# Altium schematic symbol library MCUs.SchLib: 48 symbols (part 2 of 3)
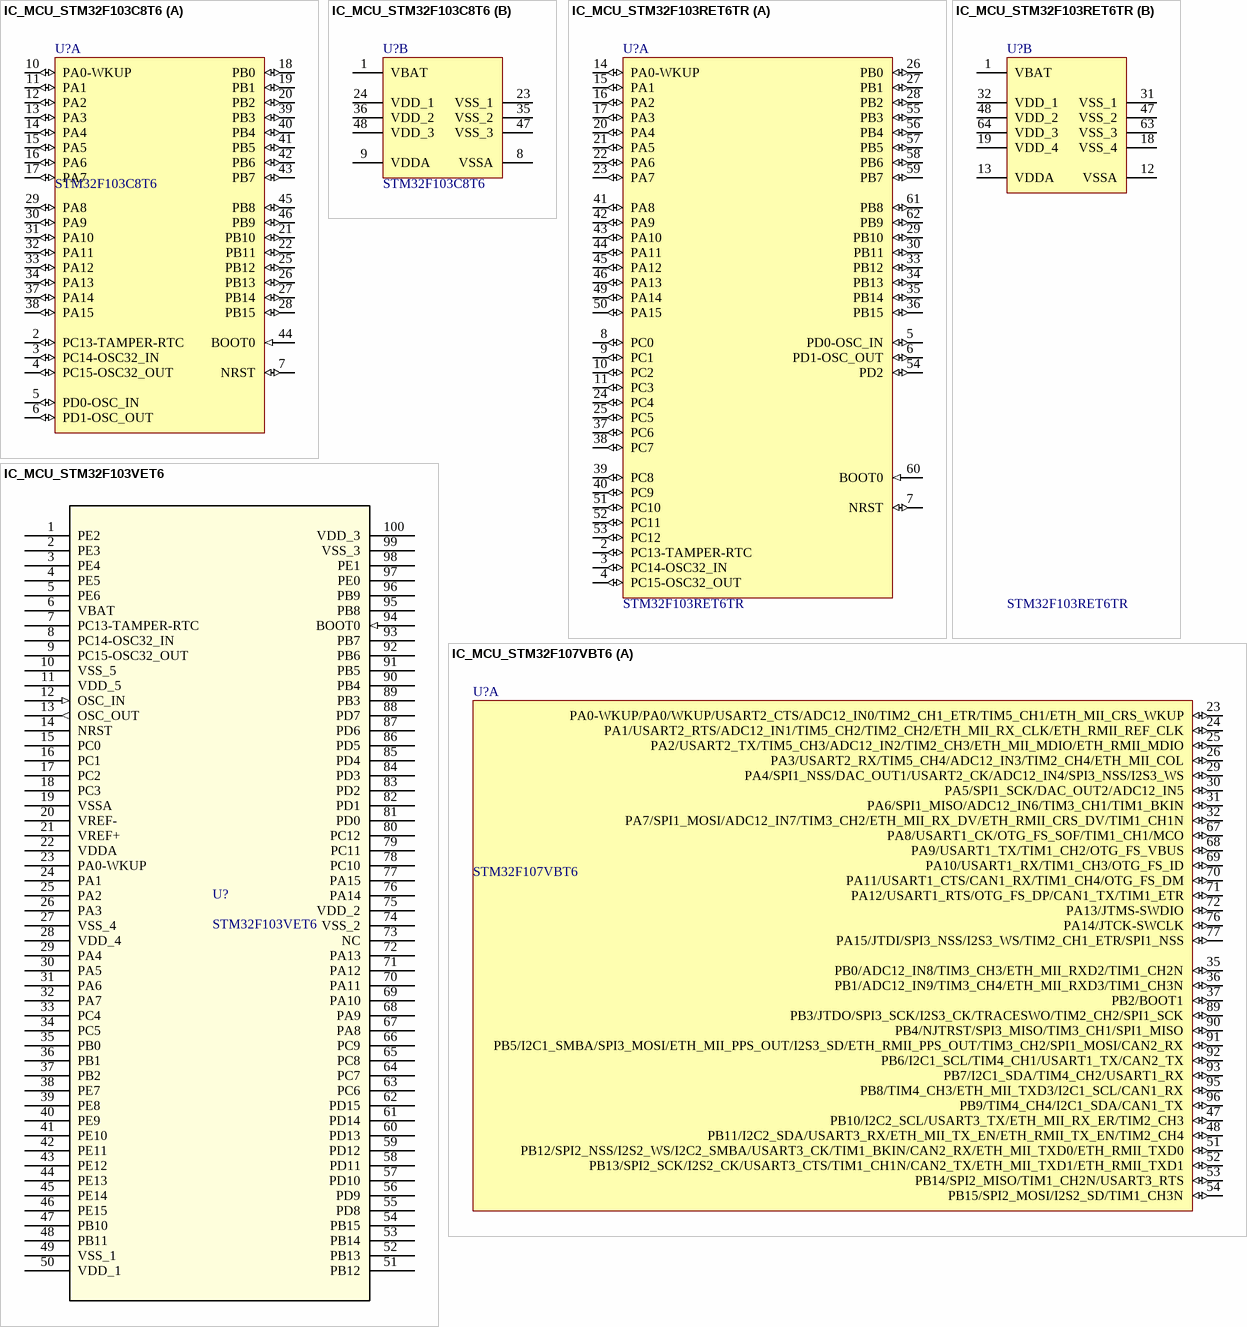
[diagram p12: symbols IC_MCU_STM32F103C8T6 to IC_MCU_STM32F107VBT6]

## IC_MCU_STM32F103RET6TR
designator U?, comment STM32F103RET6TR
IC MCU 32BIT 512KB FLASH 64LQFP; Manufacturer: STMicroelectronics; Manufacturer Part Number: STM32F103RET6TR; Supplier 1: Digi-Key; Supplier Part Number 1: 497-17387-1-ND; Reel Stock: N/A; Last modified by: J.Jaramillo; Last modified date: 20240310; ComponentLink1Description: Datasheet; ComponentLink1URL: http://www.st.com/content/ccc/resource/technical/document/datasheet/a4/5d/0b/0e/87/c4/4d/71/DM00088500.pdf/files/DM00088500.pdf/jcr:content/translations/en.DM00088500.pdf; ComponentLink2Description: Digi-Key; ComponentLink2URL: https://www.digikey.com/en/products/detail/stmicroelectronics/STM32F103RET6TR/2035377?s=N4IgTCBcDaICwE4DsBaAjEgzADlWlAcgCIgC6AvkA
footprint LQFP_64_10x10mm (64-LQFP / 20190221 / H-D.Garcia)
part A pins: 2 PC13-TAMPER-RTC (io) "PC13-TAMPER-RTC/PC13/TAMPER-RTC", 3 PC14-OSC32_IN (io) "PC14-OSC32_IN/PC14/OSC32_IN", 4 PC15-OSC32_OUT (io) "PC15-OSC32_OUT/PC15/OSC32_OUT", 5 PD0-OSC_IN (io) "PD0/OSC_IN/CAN_RX", 6 PD1-OSC_OUT (io) "PD1/OSC_OUT/CAN_TX", 7 NRST (io), 8 PC0 (io) "PC0/ADC123_IN10", 9 PC1 (io) "PC1/ADC123_IN11", 10 PC2 (io) "PC2/ADC123_IN12", 11 PC3 (io) "PC3/ADC123_IN13", 14 PA0-WKUP (io) "PA0-WKUP/PA0/WKUP/USART2_CTS/ADC123_IN0/TIM2_CH1_ETR/TIM5_CH1/TIM8_ETR", 15 PA1 (io) "PA1/USART2_RTS/ADC123_IN1/TIM5_CH2/TIM2_CH2", 16 PA2 (io) "PA2/USART2_TX/TIM5_CH3/ADC123_IN2/TIM2_CH3", 17 PA3 (io) "PA3/USART2_RX/TIM5_CH4/ADC123_IN3/TIM2_CH4", 20 PA4 (io) "PA4/SPI1_NSS/USART2_CK/DAC_OUT1/ADC12_IN4", 21 PA5 (io) "PA5/SPI1_SCK/DAC_OUT2/ADC12_IN5", 22 PA6 (io) "PA6/SPI1_MISO/TIM8_BKIN/ADC12_IN6/TIM3_CH1/TIM1_BKIN", 23 PA7 (io) "PA7/SPI1_MOSI/TIM8_CH1N/ADC12_IN7/TIM3_CH2/TIM1_CH1N", 24 PC4 (io) "PC4/ADC12_IN14", 25 PC5 (io) "PC5/ADC12_IN15", 26 PB0 (io) "PB0/ADC12_IN8/TIM3_CH3/TIM8_CH2N/TIM1_CH2N", 27 PB1 (io) "PB1/ADC12_IN9/TIM3_CH4/TIM8_CH3N/TIM1_CH3N", 28 PB2 (io) "PB2/BOOT1", 29 PB10 (io) "PB10/I2C2_SCL/USART3_TX/TIM2_CH3", 30 PB11 (io) "PB11/I2C2_SDA/USART3_RX/TIM2_CH4", 33 PB12 (io) "PB12/SPI2_NSS/I2S2_WS/I2C2_SMBA/USART3_CK/TIM1_BKIN", 34 PB13 (io) "PB13/SPI2_SCK/I2S2_CK/USART3_CTS/TIM1_CH1N", 35 PB14 (io) "PB14/SPI2_MISO/TIM1_CH2N/USART3_RTS", 36 PB15 (io) "PB15/SPI2_MOSI/I2S2_SD/TIM1_CH3N", 37 PC6 (io) "PC6/I2S2_MCK/TIM8_CH1/SDIO_D6/TIM3_CH1", 38 PC7 (io) "PC7/I2S3_MCK/TIM8_CH2/SDIO_D7/TIM3_CH2", 39 PC8 (io) "PC8/TIM8_CH3/SDIO_D0/TIM3_CH3", 40 PC9 (io) "PC9/TIM8_CH4/SDIO_D1/TIM3_CH4", 41 PA8 (io) "PA8/USART1_CK/TIM1_CH1/MCO", 42 PA9 (io) "PA9/USART1_TX/TIM1_CH2", 43 PA10 (io) "PA10/USART1_RX/TIM1_CH3", 44 PA11 (io) "PA11/USART1_CTS/USBDM/CAN_RX/TIM1_CH4", 45 PA12 (io) "PA12/USART1_RTS/USBDP/CAN_TX/TIM1_ETR", 46 PA13 (io) "PA13/JTMS-SWDIO", 49 PA14 (io) "PA14/JTCK-SWCLK", 50 PA15 (io) "PA15/JTDI/SPI3_NSS/I2S3_WS/TIM2_CH1_ETR/SPI1_NSS", 51 PC10 (io) "PC10/UART4_TX/SDIO_D2/USART3_TX", 52 PC11 (io) "PC11/UART4_RX/SDIO_D3/USART3_RX", 53 PC12 (io) "PC12/UART5_TX/SDIO_CK/USART3_CK", 54 PD2 (io) "PD2/TIM3_ETR/UART5_RX/SDIO_CMD", 55 PB3 (io) "PB3/JTDO/SPI3_SCK/I2S3_CK/TRACESWO/TIM2_CH2/SPI1_SCK", 56 PB4 (io) "PB4/NJTRST/SPI3_MISO/TIM3_CH1/SPI1_MISO", 57 PB5 (io) "PB5/I2C1_SMBA/SPI3_MOSI/I2S3_SD/TIM3_CH2/SPI1_MOSI", 58 PB6 (io) "PB6/I2C1_SCL/TIM4_CH1/USART1_TX", 59 PB7 (io) "PB7/I2C1_SDA/TIM4_CH2/USART1_RX", 60 BOOT0 (in), 61 PB8 (io) "PB8/TIM4_CH3/SDIO_D4/I2C1_SCL/CAN_RX", 62 PB9 (io) "PB9/TIM4_CH4/SDIO_D5/I2C1_SDA/CAN_TX"
part B pins: 1 VBAT (power), 12 VSSA (power), 13 VDDA (power), 18 VSS_4 (power), 19 VDD_4 (power), 31 VSS_1 (power), 32 VDD_1 (power), 47 VSS_2 (power), 48 VDD_2 (power), 63 VSS_3 (power), 64 VDD_3 (power)

## IC_MCU_STM32F103VET6
designator U?, comment STM32F103VET6
IC MCU 32BIT 512KB FLASH 100LQFP; Manufacturer: STMicroelectronics; Manufacturer Part Number: STM32F103VET6; Supplier 1: Digi-Key; Supplier Part Number 1: 497-6443-ND; Reel Stock: N/A; Last modified by: J.Jaramillo; Last modified date: 20240310; ComponentLink1Description: Digi-Key; ComponentLink1URL: https://www.digikey.com/en/products/detail/stmicroelectronics/STM32F103VET6/1852093
footprint LQFP_100_16x16MM (/20230120/J-A.Sepulveda)
pins: 1 PE2, 2 PE3, 3 PE4, 4 PE5, 5 PE6, 6 VBAT (power), 7 PC13-TAMPER-RTC, 8 PC14-OSC32_IN, 9 PC15-OSC32_OUT, 10 VSS_5 (power), 11 VDD_5 (power), 12 OSC_IN (in), 13 OSC_OUT (out), 14 NRST, 15 PC0, 16 PC1, 17 PC2, 18 PC3, 19 VSSA (power), 20 VREF- (power), 21 VREF+ (power), 22 VDDA (power), 23 PA0-WKUP, 24 PA1, 25 PA2, 26 PA3, 27 VSS_4 (power), 28 VDD_4 (power), 29 PA4, 30 PA5, 31 PA6, 32 PA7, 33 PC4, 34 PC5, 35 PB0, 36 PB1, 37 PB2, 38 PE7, 39 PE8, 40 PE9, 41 PE10, 42 PE11, 43 PE12, 44 PE13, 45 PE14, 46 PE15, 47 PB10, 48 PB11, 49 VSS_1 (power), 50 VDD_1 (power), 51 PB12, 52 PB13, 53 PB14, 54 PB15, 55 PD8, 56 PD9, 57 PD10, 58 PD11, 59 PD12, 60 PD13, 61 PD14, 62 PD15, 63 PC6, 64 PC7, 65 PC8, 66 PC9, 67 PA8, 68 PA9, 69 PA10, 70 PA11, 71 PA12, 72 PA13, 73 NC, 74 VSS_2 (power), 75 VDD_2 (power), 76 PA14, 77 PA15, 78 PC10, 79 PC11, 80 PC12, 81 PD0, 82 PD1, 83 PD2, 84 PD3, 85 PD4, 86 PD5, 87 PD6, 88 PD7, 89 PB3, 90 PB4, 91 PB5, 92 PB6, 93 PB7, 94 BOOT0 (in), 95 PB8, 96 PB9, 97 PE0, 98 PE1, 99 VSS_3 (power), 100 VDD_3 (power)

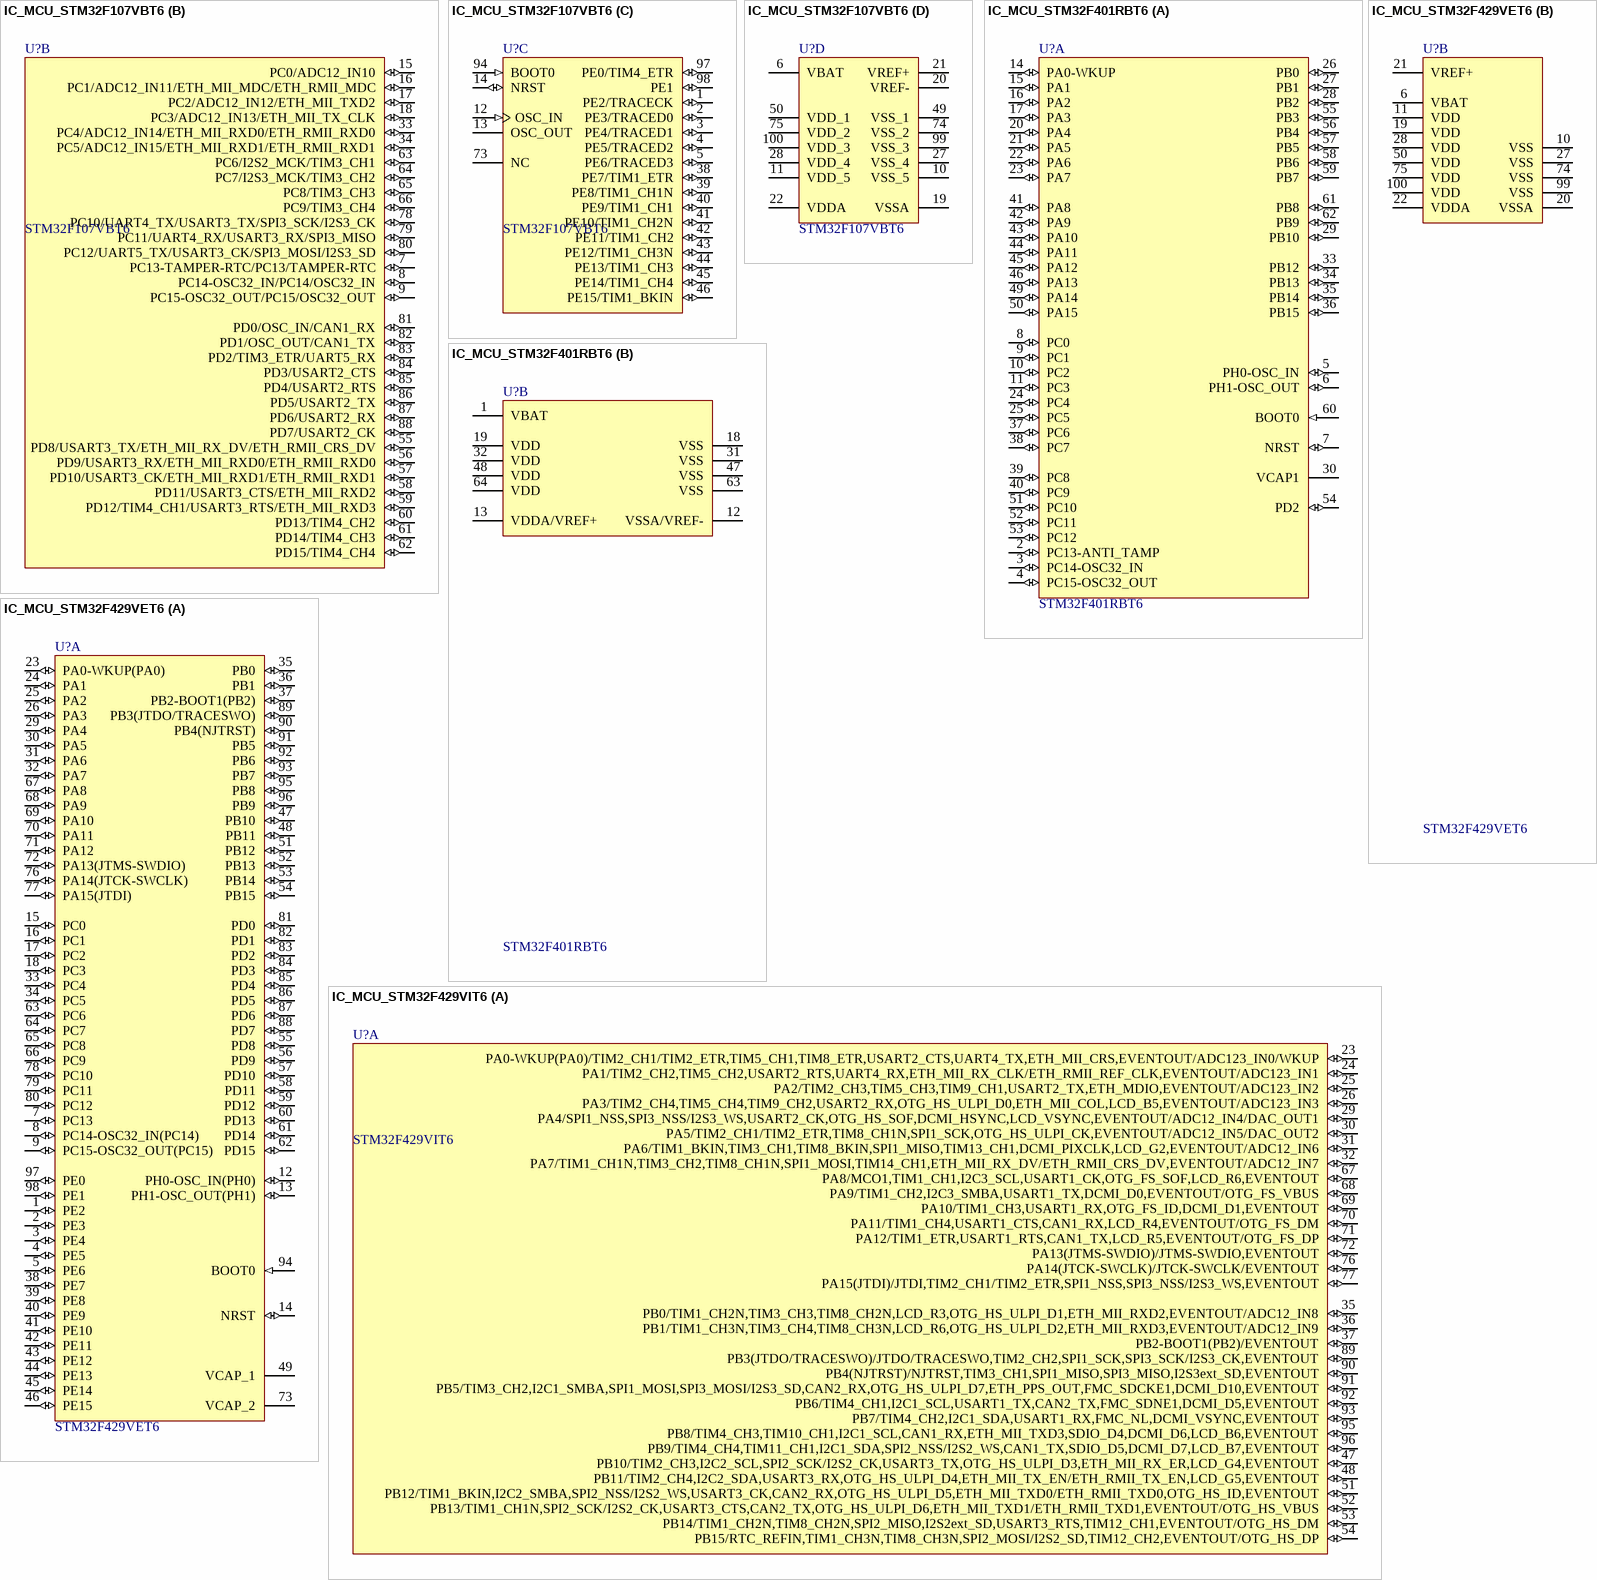
[diagram p5: symbols IC_MCU_STM32F107VBT6 to IC_MCU_STM32F429VIT6]

## IC_MCU_STM32F107VBT6
designator U?, comment STM32F107VBT6
IC MCU 32BIT 128KB FLASH 100LQFP; Manufacturer: STMicroelectronics; Manufacturer Part Number: STM32F107VBT6; Supplier 1: Digi-Key; Supplier Part Number 1: 497-8915-ND; Reel Stock: N/A; Last modified by: J.Jaramillo; Last modified date: 20240310; ComponentLink1Description: Datasheet; ComponentLink1URL: http://www.st.com/content/ccc/resource/technical/document/datasheet/e4/f3/1a/89/5a/02/46/ae/CD00220364.pdf/files/CD00220364.pdf/jcr:content/translations/en.CD00220364.pdf; ComponentLink2Description: Digi-Key; ComponentLink2URL: digikey.com/en/products/detail/stmicroelectronics/STM32F107VBT6/2074109?s=N4IgTCBcDaICwE4DsBaAHAgjAVhQOQBEQBdAXyA
footprint LQFP_100_14x14mm (100-LQFP / 20190221 / H-D.Garcia)
part A pins: 23 PA0-WKUP/PA0/WKUP/USART2_CTS/ADC12_IN0/TIM2_CH1_ETR/TIM5_CH1/ETH_MII_CRS_WKUP (io), 24 PA1/USART2_RTS/ADC12_IN1/TIM5_CH2/TIM2_CH2/ETH_MII_RX_CLK/ETH_RMII_REF_CLK (io), 25 PA2/USART2_TX/TIM5_CH3/ADC12_IN2/TIM2_CH3/ETH_MII_MDIO/ETH_RMII_MDIO (io), 26 PA3/USART2_RX/TIM5_CH4/ADC12_IN3/TIM2_CH4/ETH_MII_COL (io), 29 PA4/SPI1_NSS/DAC_OUT1/USART2_CK/ADC12_IN4/SPI3_NSS/I2S3_WS (io), 30 PA5/SPI1_SCK/DAC_OUT2/ADC12_IN5 (io), 31 PA6/SPI1_MISO/ADC12_IN6/TIM3_CH1/TIM1_BKIN (io), 32 PA7/SPI1_MOSI/ADC12_IN7/TIM3_CH2/ETH_MII_RX_DV/ETH_RMII_CRS_DV/TIM1_CH1N (io), 35 PB0/ADC12_IN8/TIM3_CH3/ETH_MII_RXD2/TIM1_CH2N (io), 36 PB1/ADC12_IN9/TIM3_CH4/ETH_MII_RXD3/TIM1_CH3N (io), 37 PB2/BOOT1 (io), 47 PB10/I2C2_SCL/USART3_TX/ETH_MII_RX_ER/TIM2_CH3 (io), 48 PB11/I2C2_SDA/USART3_RX/ETH_MII_TX_EN/ETH_RMII_TX_EN/TIM2_CH4 (io), 51 PB12/SPI2_NSS/I2S2_WS/I2C2_SMBA/USART3_CK/TIM1_BKIN/CAN2_RX/ETH_MII_TXD0/ETH_RMII_TXD0 (io), 52 PB13/SPI2_SCK/I2S2_CK/USART3_CTS/TIM1_CH1N/CAN2_TX/ETH_MII_TXD1/ETH_RMII_TXD1 (io), 53 PB14/SPI2_MISO/TIM1_CH2N/USART3_RTS (io), 54 PB15/SPI2_MOSI/I2S2_SD/TIM1_CH3N (io), 67 PA8/USART1_CK/OTG_FS_SOF/TIM1_CH1/MCO (io), 68 PA9/USART1_TX/TIM1_CH2/OTG_FS_VBUS (io), 69 PA10/USART1_RX/TIM1_CH3/OTG_FS_ID (io), 70 PA11/USART1_CTS/CAN1_RX/TIM1_CH4/OTG_FS_DM (io), 71 PA12/USART1_RTS/OTG_FS_DP/CAN1_TX/TIM1_ETR (io), 72 PA13/JTMS-SWDIO (io), 76 PA14/JTCK-SWCLK (io), 77 PA15/JTDI/SPI3_NSS/I2S3_WS/TIM2_CH1_ETR/SPI1_NSS (io), 89 PB3/JTDO/SPI3_SCK/I2S3_CK/TRACESWO/TIM2_CH2/SPI1_SCK (io), 90 PB4/NJTRST/SPI3_MISO/TIM3_CH1/SPI1_MISO (io), 91 PB5/I2C1_SMBA/SPI3_MOSI/ETH_MII_PPS_OUT/I2S3_SD/ETH_RMII_PPS_OUT/TIM3_CH2/SPI1_MOSI/CAN2_RX (io), 92 PB6/I2C1_SCL/TIM4_CH1/USART1_TX/CAN2_TX (io), 93 PB7/I2C1_SDA/TIM4_CH2/USART1_RX (io), 95 PB8/TIM4_CH3/ETH_MII_TXD3/I2C1_SCL/CAN1_RX (io), 96 PB9/TIM4_CH4/I2C1_SDA/CAN1_TX (io)
part B pins: 7 PC13-TAMPER-RTC/PC13/TAMPER-RTC (io), 8 PC14-OSC32_IN/PC14/OSC32_IN (io), 9 PC15-OSC32_OUT/PC15/OSC32_OUT (io), 15 PC0/ADC12_IN10 (io), 16 PC1/ADC12_IN11/ETH_MII_MDC/ETH_RMII_MDC (io), 17 PC2/ADC12_IN12/ETH_MII_TXD2 (io), 18 PC3/ADC12_IN13/ETH_MII_TX_CLK (io), 33 PC4/ADC12_IN14/ETH_MII_RXD0/ETH_RMII_RXD0 (io), 34 PC5/ADC12_IN15/ETH_MII_RXD1/ETH_RMII_RXD1 (io), 55 PD8/USART3_TX/ETH_MII_RX_DV/ETH_RMII_CRS_DV (io), 56 PD9/USART3_RX/ETH_MII_RXD0/ETH_RMII_RXD0 (io), 57 PD10/USART3_CK/ETH_MII_RXD1/ETH_RMII_RXD1 (io), 58 PD11/USART3_CTS/ETH_MII_RXD2 (io), 59 PD12/TIM4_CH1/USART3_RTS/ETH_MII_RXD3 (io), 60 PD13/TIM4_CH2 (io), 61 PD14/TIM4_CH3 (io), 62 PD15/TIM4_CH4 (io), 63 PC6/I2S2_MCK/TIM3_CH1 (io), 64 PC7/I2S3_MCK/TIM3_CH2 (io), 65 PC8/TIM3_CH3 (io), 66 PC9/TIM3_CH4 (io), 78 PC10/UART4_TX/USART3_TX/SPI3_SCK/I2S3_CK (io), 79 PC11/UART4_RX/USART3_RX/SPI3_MISO (io), 80 PC12/UART5_TX/USART3_CK/SPI3_MOSI/I2S3_SD (io), 81 PD0/OSC_IN/CAN1_RX (io), 82 PD1/OSC_OUT/CAN1_TX (io), 83 PD2/TIM3_ETR/UART5_RX (io), 84 PD3/USART2_CTS (io), 85 PD4/USART2_RTS (io), 86 PD5/USART2_TX (io), 87 PD6/USART2_RX (io), 88 PD7/USART2_CK (io)
part C pins: 1 PE2/TRACECK (io), 2 PE3/TRACED0 (io), 3 PE4/TRACED1 (io), 4 PE5/TRACED2 (io), 5 PE6/TRACED3 (io), 12 OSC_IN (in), 13 OSC_OUT, 14 NRST (io), 38 PE7/TIM1_ETR (io), 39 PE8/TIM1_CH1N (io), 40 PE9/TIM1_CH1 (io), 41 PE10/TIM1_CH2N (io), 42 PE11/TIM1_CH2 (io), 43 PE12/TIM1_CH3N (io), 44 PE13/TIM1_CH3 (io), 45 PE14/TIM1_CH4 (io), 46 PE15/TIM1_BKIN (io), 73 NC, 94 BOOT0 (in), 97 PE0/TIM4_ETR (io), 98 PE1 (io)
part D pins: 6 VBAT (power), 10 VSS_5 (power), 11 VDD_5 (power), 19 VSSA (power), 20 VREF- (power), 21 VREF+ (power), 22 VDDA (power), 27 VSS_4 (power), 28 VDD_4 (power), 49 VSS_1 (power), 50 VDD_1 (power), 74 VSS_2 (power), 75 VDD_2 (power), 99 VSS_3 (power), 100 VDD_3 (power)

## IC_MCU_STM32F401RBT6
designator U?, comment STM32F401RBT6
IC MCU 32BIT 128KB FLASH 64LQFP; Manufacturer: STMicroelectronics; Manufacturer Part Number: STM32F401RBT6; Supplier 1: Digi-Key; Supplier Part Number 1: 497-17428-ND; ComponentLink1URL: https://www.digikey.com/products/en?keywords=497-17428-ND; ComponentLink1Description: Digi-Key; Last modified by: J.Jaramillo; Last modified date: 20240310; Reel Stock: N/A
footprint LQFP_64_10x10mm (64-LQFP / 20190221 / H-D.Garcia)
footprint LQFP_64_10x10mm_L (64-LQFP / 20190726 / V-A.Patino)
part A pins: 2 PC13-ANTI_TAMP (io) "PC13-ANTI_TAMP/TAMP_1", 3 PC14-OSC32_IN (io) "PC14-OSC32_IN/OSC32_IN", 4 PC15-OSC32_OUT (io) "PC15-OSC32_OUT/OSC32_OUT", 5 PH0-OSC_IN (io) "PH0-OSC_IN/OSC_IN", 6 PH1-OSC_OUT (io) "PH1-OSC_OUT/OSC_OUT", 7 NRST (io), 8 PC0 (io) "PC0/ADC1_10", 9 PC1 (io) "PC1/ADC1_11", 10 PC2 (io) "PC2/SPI2_MISO,I2S2ext_SD/ADC1_12", 11 PC3 (io) "PC3/SPI2_MOSI/I2S2_SD/ADC1_13", 14 PA0-WKUP (io) "PA0-WKUP/USART2_CTS,TIM2_CH1/TIM2_ETR,TIM5_CH1/ADC1_0,WKUP", 15 PA1 (io) "PA1/USART2_RTS,TIM2_CH2,TIM5_CH2/ADC1_1", 16 PA2 (io) "PA2/USART2_TX,TIM2_CH3,TIM5_CH3,TIM9_CH1/ADC1_2", 17 PA3 (io) "PA3/USART2_RX,TIM2_CH4,TIM5_CH4,TIM9_CH2/ADC1_3", 20 PA4 (io) "PA4/SPI1_NSS,SPI3_NSS/I2S3_WS,USART2_CK/ADC1_4", 21 PA5 (io) "PA5/SPI1_SCK,TIM2_CH1/TIM2_ETR/ADC1_5", 22 PA6 (io) "PA6/SPI1_MISO,TIM1_BKIN,TIM3_CH1/ADC1_6", 23 PA7 (io) "PA7/SPI1_MOSI,TIM1_CH1N,TIM3_CH2/ADC1_7", 24 PC4 (io) "PC4/ADC1_14", 25 PC5 (io) "PC5/ADC1_15", 26 PB0 (io) "PB0/TIM1_CH2N,TIM3_CH3/ADC1_8", 27 PB1 (io) "PB1/TIM1_CH3N,TIM3_CH4/ADC1_9", 28 PB2 (io), 29 PB10 (io) "PB10/SPI2_SCK/I2S2_CK,I2C2_SCL,TIM2_CH3", 30 VCAP1 (power), 33 PB12 (io) "PB12/SPI2_NSS/I2S2_WS,I2C2_SMBAL,TIM1_BKIN", 34 PB13 (io) "PB13/SPI2_SCK/I2S2_CK,TIM1_CH1N", 35 PB14 (io) "PB14/SPI2_MISO,I2S2ext_SD,TIM1_CH2N", 36 PB15 (io) "PB15/SPI2_MOSI/I2S2_SD,TIM1_CH3N,RTC_50Hz", 37 PC6 (io) "PC6/I2S2_MCK,USART6_TX,TIM3_CH1,SDIO_D6", 38 PC7 (io) "PC7/I2S3_MCK,USART6_RX,TIM3_CH2,SDIO_D7", 39 PC8 (io) "PC8/USART6_CK,TIM3_CH3,SDIO_D0", 40 PC9 (io) "PC9/I2S2_CKIN,I2C3_SDA,TIM3_CH4,SDIO_D1,MCO_2", 41 PA8 (io) "PA8/I2C3_SCL,USART1_CK,TIM1_CH1,USB_FS_SOF,MCO_1", 42 PA9 (io) "PA9/I2C3_SMBAL,USART1_TX,TIM1_CH2,USB_FS_VBUS", 43 PA10 (io) "PA10/USART1_RX,TIM1_CH3,USB_FS_ID", 44 PA11 (io) "PA11/USART1_CTS,USART6_TX,TIM1_CH4,USB_FS_DM", 45 PA12 (io) "PA12/USART1_RTS,USART6_RX,TIM1_ETR,USB_FS_DP", 46 PA13 (io) "PA13/JTMS-SWDIO", 49 PA14 (io) "PA14/JTCK-SWCLK", 50 PA15 (io) "PA15/SPI1_NSS,SPI3_NSS/I2S3_WS,TIM2_CH1/TIM2_ETR,JTDI", 51 PC10 (io) "PC10/SPI3_SCK/I2S3_CK,SDIO_D2", 52 PC11 (io) "PC11/I2S3ext_SD,SPI3_MISO,SDIO_D3", 53 PC12 (io) "PC12/SPI3_MOSI/I2S3_SD,SDIO_CK", 54 PD2 (io) "PD2/TIM3_ETR,SDIO_CMD", 55 PB3 (io) "PB3/SPI1_SCK,SPI3_SCK/I2S3_CK,I2C2_SDA,TIM2_CH2,JTDO-SWO", 56 PB4 (io) "PB4/SPI1_MISO,SPI3_MISO,I2S3ext_SD,I2C3_SDA,TIM3_CH1,JTRST", 57 PB5 (io) "PB5/SPI1_MOSI,SPI3_MOSI/I2S3_SD,I2C1_SMBAL,TIM3_CH2", 58 PB6 (io) "PB6/I2C1_SCL,USART1_TX,TIM4_CH1", 59 PB7 (io) "PB7/I2C1_SDA,USART1_RX,TIM4_CH2", 60 BOOT0 (in), 61 PB8 (io) "PB8/I2C1_SCL,TIM4_CH3,TIM10_CH1,SDIO_D4", 62 PB9 (io) "PB9/SPI2_NSS/I2S2_WS,I2C1_SDA,TIM4_CH4,TIM11_CH1,SDIO_D5"
part B pins: 1 VBAT (power), 12 VSSA/VREF- (power), 13 VDDA/VREF+ (power), 18 VSS (power), 19 VDD (power), 31 VSS (power), 32 VDD (power), 47 VSS (power), 48 VDD (power), 63 VSS (power), 64 VDD (power)

## IC_MCU_STM32F429VET6
designator U?, comment STM32F429VET6
IC MCU 32BIT 512KB FLASH 100LQFP; Manufacturer: STMicroelectronics; Manufacturer Part Number: STM32F429VET6; Supplier 1: Digi-Key; Supplier Part Number 1: 497-17458-ND; Reel Stock: N/A; Last modified by: J.Jaramillo; Last modified date: 20240310; ComponentLink1Description: Datasheet; ComponentLink1URL: http://www.st.com/content/ccc/resource/technical/document/datasheet/03/b4/b2/36/4c/72/49/29/DM00071990.pdf/files/DM00071990.pdf/jcr:content/translations/en.DM00071990.pdf; ComponentLink2Description: Digi-Key; ComponentLink2URL: https://www.digikey.com/en/products/detail/stmicroelectronics/STM32F429VET6/5268304
footprint LQFP_100_14x14mm (100-LQFP / 20190221 / H-D.Garcia)
part A pins: 1 PE2 (io) "PE2/TRACECLK,SPI4_SCK,SAI1_MCLK_A,ETH_MII_TXD3,FMC_A23,EVENTOUT", 2 PE3 (io) "PE3/TRACED0,SAI1_SD_B,FMC_A19,EVENTOUT", 3 PE4 (io) "PE4/TRACED1,SPI4_NSS,SAI1_FS_A,FMC_A20,DCMI_D4,LCD_B0,EVENTOUT", 4 PE5 (io) "PE5/TRACED2,TIM9_CH1,SPI4_MISO,SAI1_SCK_A,FMC_A21,DCMI_D6,LCD_G0,EVENTOUT", 5 PE6 (io) "PE6/TRACED3,TIM9_CH2,SPI4_MOSI,SAI1_SD_A,FMC_A22,DCMI_D7,LCD_G1,EVENTOUT", 7 PC13 (io) "PC13/EVENTOUT/TAMP_1", 8 PC14-OSC32_IN(PC14) (io) "PC14-OSC32_IN(PC14)/EVENTOUT/OSC32_IN", 9 PC15-OSC32_OUT(PC15) (io) "PC15-OSC32_OUT(PC15)/EVENTOUT/OSC32_OUT", 12 PH0-OSC_IN(PH0) (io) "PH0-OSC_IN(PH0)/EVENTOUT/OSC_IN", 13 PH1-OSC_OUT(PH1) (io) "PH1-OSC_OUT(PH1)/EVENTOUT/OSC_OUT", 14 NRST (io), 15 PC0 (io) "PC0/OTG_HS_ULPI_STP,FMC_SDNWE,EVENTOUT/ADC123_IN10", 16 PC1 (io) "PC1/ETH_MDC,EVENTOUT/ADC123_IN11", 17 PC2 (io) "PC2/SPI2_MISO,I2S2EXT_SD,OTG_HS_ULPI_DIR,ETH_MII_TXD2,FMC_SDNE0,EVENTOUT/ADC123_IN12", 18 PC3 (io) "PC3/SPI2_MOSI/I2S2_SD,OTG_HS_ULPI_NXT,ETH_MII_TX_CLK,FMC_SDCKE0,EVENTOUT/ADC123_IN13", 23 PA0-WKUP(PA0) (io) "PA0-WKUP(PA0)/TIM2_CH1/TIM2_ETR,TIM5_CH1,TIM8_ETR,USART2_CTS,UART4_TX,ETH_MII_CRS,EVENTOUT/ADC123_IN0/WKUP", 24 PA1 (io) "PA1/TIM2_CH2,TIM5_CH2,USART2_RTS,UART4_RX,ETH_MII_RX_CLK/ETH_RMII_REF_CLK,EVENTOUT/ADC123_IN1", 25 PA2 (io) "PA2/TIM2_CH3,TIM5_CH3,TIM9_CH1,USART2_TX,ETH_MDIO,EVENTOUT/ADC123_IN2", 26 PA3 (io) "PA3/TIM2_CH4,TIM5_CH4,TIM9_CH2,USART2_RX,OTG_HS_ULPI_D0,ETH_MII_COL,LCD_B5,EVENTOUT/ADC123_IN3", 29 PA4 (io) "PA4/SPI1_NSS,SPI3_NSS/I2S3_WS,USART2_CK,OTG_HS_SOF,DCMI_HSYNC,LCD_VSYNC,EVENTOUT/ADC12_IN4/DAC_OUT1", 30 PA5 (io) "PA5/TIM2_CH1/TIM2_ETR,TIM8_CH1N,SPI1_SCK,OTG_HS_ULPI_CK,EVENTOUT/ADC12_IN5/DAC_OUT2", 31 PA6 (io) "PA6/TIM1_BKIN,TIM3_CH1,TIM8_BKIN,SPI1_MISO,TIM13_CH1,DCMI_PIXCLK,LCD_G2,EVENTOUT/ADC12_IN6", 32 PA7 (io) "PA7/TIM1_CH1N,TIM3_CH2,TIM8_CH1N,SPI1_MOSI,TIM14_CH1,ETH_MII_RX_DV/ETH_RMII_CRS_DV,EVENTOUT/ADC12_IN7", 33 PC4 (io) "PC4/ETH_MII_RXD0/ETH_RMII_RXD0,EVENTOUT/ADC12_IN14", 34 PC5 (io) "PC5/ETH_MII_RXD1/ETH_RMII_RXD1,EVENTOUT/ADC12_IN15", 35 PB0 (io) "PB0/TIM1_CH2N,TIM3_CH3,TIM8_CH2N,LCD_R3,OTG_HS_ULPI_D1,ETH_MII_RXD2,EVENTOUT/ADC12_IN8", 36 PB1 (io) "PB1/TIM1_CH3N,TIM3_CH4,TIM8_CH3N,LCD_R6,OTG_HS_ULPI_D2,ETH_MII_RXD3,EVENTOUT/ADC12_IN9", 37 PB2-BOOT1(PB2) (io) "PB2-BOOT1(PB2)/EVENTOUT", 38 PE7 (io) "PE7/TIM1_ETR,UART7_RX,FMC_D4,EVENTOUT", 39 PE8 (io) "PE8/TIM1_CH1N,UART7_TX,FMC_D5,EVENTOUT", 40 PE9 (io) "PE9/TIM1_CH1,FMC_D6,EVENTOUT", 41 PE10 (io) "PE10/TIM1_CH2N,FMC_D7,EVENTOUT", 42 PE11 (io) "PE11/TIM1_CH2,SPI4_NSS,FMC_D8,LCD_G3,EVENTOUT", 43 PE12 (io) "PE12/TIM1_CH3N,SPI4_SCK,FMC_D9,LCD_B4,EVENTOUT", 44 PE13 (io) "PE13/TIM1_CH3,SPI4_MISO,FMC_D10,LCD_DE,EVENTOUT", 45 PE14 (io) "PE14/TIM1_CH4,SPI4_MOSI,FMC_D11,LCD_CLK,EVENTOUT", 46 PE15 (io) "PE15/TIM1_BKIN,FMC_D12,LCD_R7,EVENTOUT", 47 PB10 (io) "PB10/TIM2_CH3,I2C2_SCL,SPI2_SCK/I2S2_CK,USART3_TX,OTG_HS_ULPI_D3,ETH_MII_RX_ER,LCD_G4,EVENTOUT", 48 PB11 (io) "PB11/TIM2_CH4,I2C2_SDA,USART3_RX,OTG_HS_ULPI_D4,ETH_MII_TX_EN/ETH_RMII_TX_EN,LCD_G5,EVENTOUT", 49 VCAP_1, 51 PB12 (io) "PB12/TIM1_BKIN,I2C2_SMBA,SPI2_NSS/I2S2_WS,USART3_CK,CAN2_RX,OTG_HS_ULPI_D5,ETH_MII_TXD0/ETH_RMII_TXD0,OTG_HS_ID,EVENTOUT", 52 PB13 (io) "PB13/TIM1_CH1N,SPI2_SCK/I2S2_CK,USART3_CTS,CAN2_TX,OTG_HS_ULPI_D6,ETH_MII_TXD1/ETH_RMII_TXD1,EVENTOUTOTG_HS_VBUS", 53 PB14 (io) "PB14/TIM1_CH2N,TIM8_CH2N,SPI2_MISO,I2S2EXT_SD,USART3_RTS,TIM12_CH1,OTG_HS_DM,EVENTOUT", 54 PB15 (io) "PB15/RTC_REFIN,TIM1_CH3N,TIM8_CH3N,SPI2_MOSI/I2S2_SD,TIM12_CH2,OTG_HS_DP,EVENTOUT", 55 PD8 (io) "PD8/USART3_TX,FMC_D13,EVENTOUT", 56 PD9 (io) "PD9/USART3_RX,FMC_D14,EVENTOUT", 57 PD10 (io) "PD10/USART3_CK,FMC_D15,LCD_B3,EVENTOUT", 58 PD11 (io) "PD11/USART3_CTS,FMC_A16,EVENTOUT", 59 PD12 (io) "PD12/TIM4_CH1,USART3_RTS,FMC_A17,EVENTOUT", 60 PD13 (io) "PD13/TIM4_CH2,FMC_A18,EVENTOUT", 61 PD14 (io) "PD14/TIM4_CH3,FMC_D0,EVENTOUT", 62 PD15 (io) "PD15/TIM4_CH4,FMC_D1,EVENTOUT", 63 PC6 (io) "PC6/TIM3_CH1,TIM8_CH1,I2S2_MCK,USART6_TX,SDIO_D6,DCMI_D0,LCD_HSYNC,EVENTOUT", 64 PC7 (io) "PC7/TIM3_CH2,TIM8_CH2,I2S3_MCK,USART6_RX,SDIO_D7,DCMI_D1,LCD_G6,EVENTOUT", 65 PC8 (io) "PC8/TIM3_CH3,TIM8_CH3,USART6_CK,SDIO_D0,DCMI_D2,EVENTOUT", 66 PC9 (io) "PC9/MCO2,TIM3_CH4,TIM8_CH4,I2C3_SDA,I2S_CKIN,SDIO_D1,DCMI_D3,EVENTOUT", 67 PA8 (io) "PA8/MCO1,TIM1_CH1,I2C3_SCL,USART1_CK,OTG_FS_SOF,LCD_R6,EVENTOUT", 68 PA9 (io) "PA9/TIM1_CH2,I2C3_SMBA,USART1_TX,DCMI_D0,EVENTOUT/OTG_FS_VBUS", 69 PA10 (io) "PA10/TIM1_CH3,USART1_RX,OTG_FS_ID,DCMI_D1,EVENTOUT", 70 PA11 (io) "PA11/TIM1_CH4,USART1_CTS,CAN1_RX,LCD_R4,OTG_FS_DM,EVENTOUT", 71 PA12 (io) "PA12/TIM1_ETR,USART1_RTS,CAN1_TX,LCD_R5,OTG_FS_DP,EVENTOUT", 72 PA13(JTMS-SWDIO) (io) "PA13(JTMS-SWDIO)/JTMS-SWDIO,EVENTOUT", 73 VCAP_2, 76 PA14(JTCK-SWCLK) (io) "PA14(JTCK-SWCLK)/JTCK-SWCLK/EVENTOUT", 77 PA15(JTDI) (io) "PA15(JTDI)/JTDI,TIM2_CH1/TIM2_ETR,SPI1_NSS,SPI3_NSS/I2S3_WS,EVENTOUT", 78 PC10 (io) "PC10/SPI3_SCK/I2S3_CK,USART3_TX,UART4_TX,SDIO_D2,DCMI_D8,LCD_R2,EVENTOUT", 79 PC11 (io) "PC11/I2S3EXT_SD,SPI3_MISO,USART3_RX,UART4_RX,SDIO_D3,DCMI_D4,EVENTOUT", 80 PC12 (io) "PC12/SPI3_MOSI/I2S3_SD,USART3_CK,UART5_TX,SDIO_CK,DCMI_D9,EVENTOUT", 81 PD0 (io) "PD0/CAN1_RX,FMC_D2,EVENTOUT", 82 PD1 (io) "PD1/CAN1_TX,FMC_D3,EVENTOUT", 83 PD2 (io) "PD2/TIM3_ETR,UART5_RX,SDIO_CMD,DCMI_D11,EVENTOUT", 84 PD3 (io) "PD3/SPI2_SCK/I2S2_CK,USART2_CTS,FMC_CLK,DCMI_D5,LCD_G7,EVENTOUT", 85 PD4 (io) "PD4/USART2_RTS,FMC_NOE,EVENTOUT", 86 PD5 (io) "PD5/USART2_TX,FMC_NWE,EVENTOUT", 87 PD6 (io) "PD6/SPI3_MOSI/I2S3_SD,SAI1_SD_A,USART2_RX,FMC_NWAIT,DCMI_D10,LCD_B2,EVENTOUT", 88 PD7 (io) "PD7/USART2_CK,FMC_NE1/FMC_NCE2,EVENTOUT", 89 PB3(JTDO/TRACESWO) (io) "PB3(JTDO/TRACESWO)/JTDO/TRACESWO,TIM2_CH2,SPI1_SCK,SPI3_SCK/I2S3_CK,EVENTOUT", 90 PB4(NJTRST) (io) "PB4(NJTRST)/NJTRST,TIM3_CH1,SPI1_MISO,SPI3_MISO,I2S3EXT_SD,EVENTOUT", 91 PB5 (io) "PB5/TIM3_CH2,I2C1_SMBA,SPI1_MOSI,SPI3_MOSI/I2S3_SD,CAN2_RX,OTG_HS_ULPI_D7,ETH_PPS_OUT,FMC_SDCKE1,DCMI_D10,EVENTOUT", 92 PB6 (io) "PB6/TIM4_CH1,I2C1_SCL,USART1_TX,CAN2_TX,FMC_SDNE1,DCMI_D5,EVENTOUT", 93 PB7 (io) "PB7/TIM4_CH2,I2C1_SDA,USART1_RX,FMC_NL,DCMI_VSYNC,EVENTOUT", 94 BOOT0 (in) "BOOT0/VPP", 95 PB8 (io) "PB8/TIM4_CH3,TIM10_CH1,I2C1_SCL,CAN1_RX,ETH_MII_TXD3,SDIO_D4,DCMI_D6,LCD_B6,EVENTOUT", 96 PB9 (io) "PB9/TIM4_CH4,TIM11_CH1,I2C1_SDA,SPI2_NSS/I2S2_WS,CAN1_TX,SDIO_D5,DCMI_D7,LCD_B7,EVENTOUT", 97 PE0 (io) "PE0/TIM4_ETR,UART8_RX,FMC_NBL0,DCMI_D2,EVENTOUT", 98 PE1 (io) "PE1/UART8_TX,FMC_NBL1,DCMI_D3,EVENTOUT"
part B pins: 6 VBAT (power), 10 VSS (power), 11 VDD (power), 19 VDD (power), 20 VSSA (power), 21 VREF+ (power), 22 VDDA (power), 27 VSS (power), 28 VDD (power), 50 VDD (power), 74 VSS (power), 75 VDD (power), 99 VSS (power), 100 VDD (power)

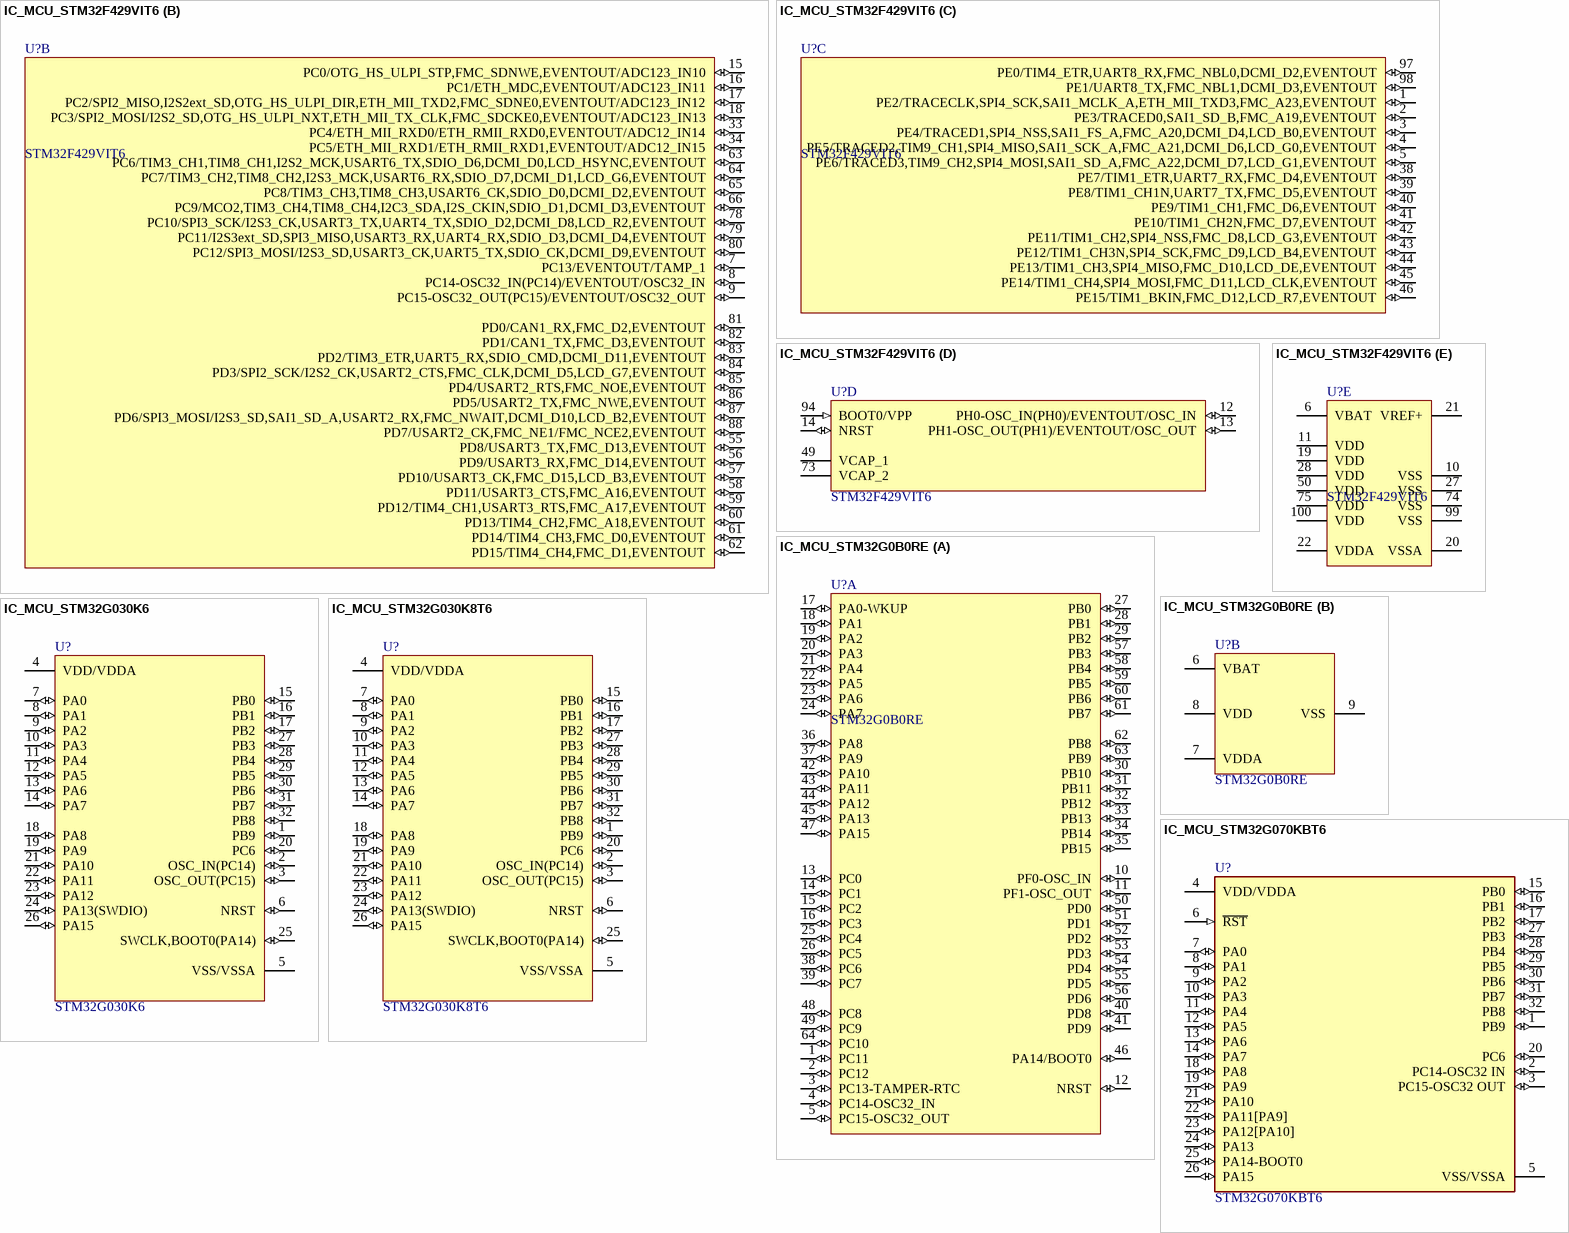
[diagram p6: symbols IC_MCU_STM32F429VIT6 to IC_MCU_STM32G070KBT6]

## IC_MCU_STM32F429VIT6
designator U?, comment STM32F429VIT6
IC MCU 32BIT 2MB FLASH 100LQFP; Manufacturer: STMicroelectronics; ComponentLink1Description: Digi-Key; ComponentLink1URL: https://www.digikey.com/products/en?keywords=497-14052-ND; Last modified by: J.Jaramillo; Last modified date: 20240310; Manufacturer Part Number: STM32F429VIT6; Supplier 1: Digi-Key; Supplier Part Number 1: 497-14052-ND; Reel Stock: N/A
footprint LQFP_100_14x14mm (100-LQFP / 20190221 / H-D.Garcia)
part A pins: 23 PA0-WKUP(PA0)/TIM2_CH1/TIM2_ETR,TIM5_CH1,TIM8_ETR,USART2_CTS,UART4_TX,ETH_MII_CRS,EVENTOUT/ADC123_IN0/WKUP (io), 24 PA1/TIM2_CH2,TIM5_CH2,USART2_RTS,UART4_RX,ETH_MII_RX_CLK/ETH_RMII_REF_CLK,EVENTOUT/ADC123_IN1 (io), 25 PA2/TIM2_CH3,TIM5_CH3,TIM9_CH1,USART2_TX,ETH_MDIO,EVENTOUT/ADC123_IN2 (io), 26 PA3/TIM2_CH4,TIM5_CH4,TIM9_CH2,USART2_RX,OTG_HS_ULPI_D0,ETH_MII_COL,LCD_B5,EVENTOUT/ADC123_IN3 (io), 29 PA4/SPI1_NSS,SPI3_NSS/I2S3_WS,USART2_CK,OTG_HS_SOF,DCMI_HSYNC,LCD_VSYNC,EVENTOUT/ADC12_IN4/DAC_OUT1 (io), 30 PA5/TIM2_CH1/TIM2_ETR,TIM8_CH1N,SPI1_SCK,OTG_HS_ULPI_CK,EVENTOUT/ADC12_IN5/DAC_OUT2 (io), 31 PA6/TIM1_BKIN,TIM3_CH1,TIM8_BKIN,SPI1_MISO,TIM13_CH1,DCMI_PIXCLK,LCD_G2,EVENTOUT/ADC12_IN6 (io), 32 PA7/TIM1_CH1N,TIM3_CH2,TIM8_CH1N,SPI1_MOSI,TIM14_CH1,ETH_MII_RX_DV/ETH_RMII_CRS_DV,EVENTOUT/ADC12_IN7 (io), 35 PB0/TIM1_CH2N,TIM3_CH3,TIM8_CH2N,LCD_R3,OTG_HS_ULPI_D1,ETH_MII_RXD2,EVENTOUT/ADC12_IN8 (io), 36 PB1/TIM1_CH3N,TIM3_CH4,TIM8_CH3N,LCD_R6,OTG_HS_ULPI_D2,ETH_MII_RXD3,EVENTOUT/ADC12_IN9 (io), 37 PB2-BOOT1(PB2)/EVENTOUT (io), 47 PB10/TIM2_CH3,I2C2_SCL,SPI2_SCK/I2S2_CK,USART3_TX,OTG_HS_ULPI_D3,ETH_MII_RX_ER,LCD_G4,EVENTOUT (io), 48 PB11/TIM2_CH4,I2C2_SDA,USART3_RX,OTG_HS_ULPI_D4,ETH_MII_TX_EN/ETH_RMII_TX_EN,LCD_G5,EVENTOUT (io), 51 PB12/TIM1_BKIN,I2C2_SMBA,SPI2_NSS/I2S2_WS,USART3_CK,CAN2_RX,OTG_HS_ULPI_D5,ETH_MII_TXD0/ETH_RMII_TXD0,OTG_HS_ID,EVENTOUT (io), 52 PB13/TIM1_CH1N,SPI2_SCK/I2S2_CK,USART3_CTS,CAN2_TX,OTG_HS_ULPI_D6,ETH_MII_TXD1/ETH_RMII_TXD1,EVENTOUT/OTG_HS_VBUS (io), 53 PB14/TIM1_CH2N,TIM8_CH2N,SPI2_MISO,I2S2ext_SD,USART3_RTS,TIM12_CH1,EVENTOUT/OTG_HS_DM (io), 54 PB15/RTC_REFIN,TIM1_CH3N,TIM8_CH3N,SPI2_MOSI/I2S2_SD,TIM12_CH2,EVENTOUT/OTG_HS_DP (io), 67 PA8/MCO1,TIM1_CH1,I2C3_SCL,USART1_CK,OTG_FS_SOF,LCD_R6,EVENTOUT (io), 68 PA9/TIM1_CH2,I2C3_SMBA,USART1_TX,DCMI_D0,EVENTOUT/OTG_FS_VBUS (io), 69 PA10/TIM1_CH3,USART1_RX,OTG_FS_ID,DCMI_D1,EVENTOUT (io), 70 PA11/TIM1_CH4,USART1_CTS,CAN1_RX,LCD_R4,EVENTOUT/OTG_FS_DM (io), 71 PA12/TIM1_ETR,USART1_RTS,CAN1_TX,LCD_R5,EVENTOUT/OTG_FS_DP (io), 72 PA13(JTMS-SWDIO)/JTMS-SWDIO,EVENTOUT (io), 76 PA14(JTCK-SWCLK)/JTCK-SWCLK/EVENTOUT (io), 77 PA15(JTDI)/JTDI,TIM2_CH1/TIM2_ETR,SPI1_NSS,SPI3_NSS/I2S3_WS,EVENTOUT (io), 89 PB3(JTDO/TRACESWO)/JTDO/TRACESWO,TIM2_CH2,SPI1_SCK,SPI3_SCK/I2S3_CK,EVENTOUT (io), 90 PB4(NJTRST)/NJTRST,TIM3_CH1,SPI1_MISO,SPI3_MISO,I2S3ext_SD,EVENTOUT (io), 91 PB5/TIM3_CH2,I2C1_SMBA,SPI1_MOSI,SPI3_MOSI/I2S3_SD,CAN2_RX,OTG_HS_ULPI_D7,ETH_PPS_OUT,FMC_SDCKE1,DCMI_D10,EVENTOUT (io), 92 PB6/TIM4_CH1,I2C1_SCL,USART1_TX,CAN2_TX,FMC_SDNE1,DCMI_D5,EVENTOUT (io), 93 PB7/TIM4_CH2,I2C1_SDA,USART1_RX,FMC_NL,DCMI_VSYNC,EVENTOUT (io), 95 PB8/TIM4_CH3,TIM10_CH1,I2C1_SCL,CAN1_RX,ETH_MII_TXD3,SDIO_D4,DCMI_D6,LCD_B6,EVENTOUT (io), 96 PB9/TIM4_CH4,TIM11_CH1,I2C1_SDA,SPI2_NSS/I2S2_WS,CAN1_TX,SDIO_D5,DCMI_D7,LCD_B7,EVENTOUT (io)
part B pins: 7 PC13/EVENTOUT/TAMP_1 (io), 8 PC14-OSC32_IN(PC14)/EVENTOUT/OSC32_IN (io), 9 PC15-OSC32_OUT(PC15)/EVENTOUT/OSC32_OUT (io), 15 PC0/OTG_HS_ULPI_STP,FMC_SDNWE,EVENTOUT/ADC123_IN10 (io), 16 PC1/ETH_MDC,EVENTOUT/ADC123_IN11 (io), 17 PC2/SPI2_MISO,I2S2ext_SD,OTG_HS_ULPI_DIR,ETH_MII_TXD2,FMC_SDNE0,EVENTOUT/ADC123_IN12 (io), 18 PC3/SPI2_MOSI/I2S2_SD,OTG_HS_ULPI_NXT,ETH_MII_TX_CLK,FMC_SDCKE0,EVENTOUT/ADC123_IN13 (io), 33 PC4/ETH_MII_RXD0/ETH_RMII_RXD0,EVENTOUT/ADC12_IN14 (io), 34 PC5/ETH_MII_RXD1/ETH_RMII_RXD1,EVENTOUT/ADC12_IN15 (io), 55 PD8/USART3_TX,FMC_D13,EVENTOUT (io), 56 PD9/USART3_RX,FMC_D14,EVENTOUT (io), 57 PD10/USART3_CK,FMC_D15,LCD_B3,EVENTOUT (io), 58 PD11/USART3_CTS,FMC_A16,EVENTOUT (io), 59 PD12/TIM4_CH1,USART3_RTS,FMC_A17,EVENTOUT (io), 60 PD13/TIM4_CH2,FMC_A18,EVENTOUT (io), 61 PD14/TIM4_CH3,FMC_D0,EVENTOUT (io), 62 PD15/TIM4_CH4,FMC_D1,EVENTOUT (io), 63 PC6/TIM3_CH1,TIM8_CH1,I2S2_MCK,USART6_TX,SDIO_D6,DCMI_D0,LCD_HSYNC,EVENTOUT (io), 64 PC7/TIM3_CH2,TIM8_CH2,I2S3_MCK,USART6_RX,SDIO_D7,DCMI_D1,LCD_G6,EVENTOUT (io), 65 PC8/TIM3_CH3,TIM8_CH3,USART6_CK,SDIO_D0,DCMI_D2,EVENTOUT (io), 66 PC9/MCO2,TIM3_CH4,TIM8_CH4,I2C3_SDA,I2S_CKIN,SDIO_D1,DCMI_D3,EVENTOUT (io), 78 PC10/SPI3_SCK/I2S3_CK,USART3_TX,UART4_TX,SDIO_D2,DCMI_D8,LCD_R2,EVENTOUT (io), 79 PC11/I2S3ext_SD,SPI3_MISO,USART3_RX,UART4_RX,SDIO_D3,DCMI_D4,EVENTOUT (io), 80 PC12/SPI3_MOSI/I2S3_SD,USART3_CK,UART5_TX,SDIO_CK,DCMI_D9,EVENTOUT (io), 81 PD0/CAN1_RX,FMC_D2,EVENTOUT (io), 82 PD1/CAN1_TX,FMC_D3,EVENTOUT (io), 83 PD2/TIM3_ETR,UART5_RX,SDIO_CMD,DCMI_D11,EVENTOUT (io), 84 PD3/SPI2_SCK/I2S2_CK,USART2_CTS,FMC_CLK,DCMI_D5,LCD_G7,EVENTOUT (io), 85 PD4/USART2_RTS,FMC_NOE,EVENTOUT (io), 86 PD5/USART2_TX,FMC_NWE,EVENTOUT (io), 87 PD6/SPI3_MOSI/I2S3_SD,SAI1_SD_A,USART2_RX,FMC_NWAIT,DCMI_D10,LCD_B2,EVENTOUT (io), 88 PD7/USART2_CK,FMC_NE1/FMC_NCE2,EVENTOUT (io)
part C pins: 1 PE2/TRACECLK,SPI4_SCK,SAI1_MCLK_A,ETH_MII_TXD3,FMC_A23,EVENTOUT (io), 2 PE3/TRACED0,SAI1_SD_B,FMC_A19,EVENTOUT (io), 3 PE4/TRACED1,SPI4_NSS,SAI1_FS_A,FMC_A20,DCMI_D4,LCD_B0,EVENTOUT (io), 4 PE5/TRACED2,TIM9_CH1,SPI4_MISO,SAI1_SCK_A,FMC_A21,DCMI_D6,LCD_G0,EVENTOUT (io), 5 PE6/TRACED3,TIM9_CH2,SPI4_MOSI,SAI1_SD_A,FMC_A22,DCMI_D7,LCD_G1,EVENTOUT (io), 38 PE7/TIM1_ETR,UART7_RX,FMC_D4,EVENTOUT (io), 39 PE8/TIM1_CH1N,UART7_TX,FMC_D5,EVENTOUT (io), 40 PE9/TIM1_CH1,FMC_D6,EVENTOUT (io), 41 PE10/TIM1_CH2N,FMC_D7,EVENTOUT (io), 42 PE11/TIM1_CH2,SPI4_NSS,FMC_D8,LCD_G3,EVENTOUT (io), 43 PE12/TIM1_CH3N,SPI4_SCK,FMC_D9,LCD_B4,EVENTOUT (io), 44 PE13/TIM1_CH3,SPI4_MISO,FMC_D10,LCD_DE,EVENTOUT (io), 45 PE14/TIM1_CH4,SPI4_MOSI,FMC_D11,LCD_CLK,EVENTOUT (io), 46 PE15/TIM1_BKIN,FMC_D12,LCD_R7,EVENTOUT (io), 97 PE0/TIM4_ETR,UART8_RX,FMC_NBL0,DCMI_D2,EVENTOUT (io), 98 PE1/UART8_TX,FMC_NBL1,DCMI_D3,EVENTOUT (io)
part D pins: 12 PH0-OSC_IN(PH0)/EVENTOUT/OSC_IN (io), 13 PH1-OSC_OUT(PH1)/EVENTOUT/OSC_OUT (io), 14 NRST (io), 49 VCAP_1 (power), 73 VCAP_2 (power), 94 BOOT0/VPP (in)
part E pins: 6 VBAT (power), 10 VSS (power), 11 VDD (power), 19 VDD (power), 20 VSSA (power), 21 VREF+ (power), 22 VDDA (power), 27 VSS (power), 28 VDD (power), 50 VDD (power), 74 VSS (power), 75 VDD (power), 99 VSS (power), 100 VDD (power)

## IC_MCU_STM32G0B0RE
designator U?, comment STM32G0B0RE
IC MCU 32BIT 512KB FLASH 64LQFP; Manufacturer: STMicroelectronics; Manufacturer Part Number: STM32G0B0RE; Supplier 1: STMicroelectronics; Supplier Part Number 1: STM32G0B0RE; Reel Stock: N/A; Last modified by: J.Jaramillo; Last modified date: 20240310; ComponentLink1Description: Datasheet; ComponentLink1URL: https://www.st.com/content/st_com/en/products/microcontrollers-microprocessors/stm32-32-bit-arm-cortex-mcus/stm32-mainstream-mcus/stm32g0-series/stm32g0x0-value-line/stm32g0b0re.html
footprint LQFP_64_10x10mm (64-LQFP / 20190221 / H-D.Garcia)
part A pins: 1 PC11 (io) "PC11/UART4_RX/SDIO_D3/USART3_RX", 2 PC12 (io) "PC12/UART5_TX", 3 PC13-TAMPER-RTC (io), 4 PC14-OSC32_IN (io) "PC14-OSC32_IN/PC14/OSC32_IN", 5 PC15-OSC32_OUT (io) "PC15-OSC32_OUT/PC15/OSC32_OUT", 10 PF0-OSC_IN (io) "PD0/OSC_IN", 11 PF1-OSC_OUT (io) "PD1/OSC_OUT", 12 NRST (io), 13 PC0 (io) "PC0/USART6_TX", 14 PC1 (io) "PC1/USART6_RX", 15 PC2 (io) "PC2/SPI2_MISO", 16 PC3 (io) "PC3/SPI2_MOSI", 17 PA0-WKUP (io) "PA0-WKUP/PA0/WKUP/USART2_CTS/USART4_TX/SPI2_SCK/EXTI0/ADC1_IN0", 18 PA1 (io) "PA1/USART2_RTS/ADC1_IN1/TIM5_CH1/SPI1_SCK/EXTI1", 19 PA2 (io) "PA2/USART2_TX/TIM15_CH1/ADC1_IN2/SPI1_MOSI/EXTI2", 20 PA3 (io) "PA3/USART2_RX/TIM15_CH2/ADC1_IN3/SPI1_MISO/EXTI3", 21 PA4 (io) "PA4/SPI1_NSS/USART6_TX/TIM14_CH1/ADC1_IN4/EXTI4", 22 PA5 (io) "PA5/SPI1_SCK/USART6_RX/USART3_TX/ADC1_IN5", 23 PA6 (io) "PA6/SPI1_MISO/TIM8_BKIN/ADC12_IN6/TIM3_CH1/TIM1_BKIN", 24 PA7 (io) "PA7/SPI1_MOSI/TIM1_CH1N/ADC1_IN7/TIM3_CH2/TIM14/17_CH1", 25 PC4 (io) "PC4/ADC1_IN17", 26 PC5 (io) "PC5/ADC1_IN18", 27 PB0 (io) "PB0/ADC1_IN8/TIM3_CH3/TIM1_CH2N", 28 PB1 (io) "PB1/ADC1_IN9/TIM3_CH4/TIM1_CH3N", 29 PB2 (io) "PB2/BOOT1", 30 PB10 (io) "PB10/I2C2_SCL/USART3_TX", 31 PB11 (io) "PB11/I2C2_SDA/USART3_RX", 32 PB12 (io) "PB12/SPI2_NSS/I2S2_WS/I2C2_SMBA/TIM1_BK", 33 PB13 (io) "PB13/SPI2_SCK/I2S2_CK/USART3_CTS/TIM1_CH1N", 34 PB14 (io) "PB14/SPI2_MISO/TIM1_CH2N/USART3_RTS", 35 PB15 (io) "PB15/SPI2_MOSI/I2S2_SD/TIM1_CH3N", 36 PA8 (io) "PA8/USART1_CK/TIM1_CH1/RCC_MCO/SPI2_NSS", 37 PA9 (io) "PA9/USART1_TX/TIM1_CH2", 38 PC6 (io) "PC6/TIM3_CH1", 39 PC7 (io) "PC7/TIM3_CH2", 40 PD8 (io) "PD8/USART3_TX", 41 PD9 (io) "PD9/USART3_RX", 42 PA10 (io) "PA10/USART1_RX/TIM1_CH3", 43 PA11 (io) "PA11/USART1_CTS/USBDM/TIM1_CH4", 44 PA12 (io) "PA12/USART1_RTS/USBDP/TIM1_ETR", 45 PA13 (io) "PA13/JTMS-SWDIO", 46 PA14/BOOT0 (io) "PA14/JTCK-SWCLK/BOOT0", 47 PA15 (io) "PA15/SPI3_NSS/SPI1_NSS/RCC_MO_2", 48 PC8 (io) "PC8/TIM1_CH1/TIM3_CH3", 49 PC9 (io) "PC9/TIM1_CH2/TIM3_CH4", 50 PD0 (io) "PD0/TIM16_CH1/SPI2_NSS", 51 PD1 (io) "PD1/TIM17_CH1/SPI2_SCK", 52 PD2 (io) "PD2/TIM3_ETR/UART5_RX", 53 PD3 (io) "PD3/SPI2_MISO/USART5_TX", 54 PD4 (io) "PD4/TIM1_CH3N/SPI2_MOSI", 55 PD5 (io) "PD5/USART2_TX", 56 PD6 (io) "PD6/USART2_RX", 57 PB3 (io) "PB3/SPI3_SCK/I2S3_SCL/TIM1_CH2/SPI1_SCK", 58 PB4 (io) "PB4/SPI3_MISO/TIM3_CH1/SPI1_MISO", 59 PB5 (io) "PB5/SPI3_MOSI/TIM3_CH2/SPI1_MOSI", 60 PB6 (io) "PB6/I2C1_SCL/TIM4_CH1/USART1_TX", 61 PB7 (io) "PB7/I2C1_SDA/TIM4_CH2/USART1_RX", 62 PB8 (io) "PB8/TIM4_CH3/I2C1_SCL", 63 PB9 (io) "PB9/TIM4_CH4/SDIO_D5/I2C1_SDA/CAN_TX", 64 PC10 (io) "PC10/UART4_TX/USART3_TX"
part B pins: 6 VBAT (power), 7 VDDA (power), 8 VDD (power) "VDD_1", 9 VSS (power) "VSS_3"

## IC_MCU_STM32G030K6
designator U?, comment STM32G030K6
IC MCU 32BIT 64KB FLASH 32LQFP; Manufacturer: STMicroelectronics; Manufacturer Part Number: STM32G030K6T6; Supplier 1: 497-19769-ND; Supplier Part Number 1: 497-19769-ND; Reel Stock: N/A; Last modified by: J.Jaramillo; Last modified date: 20240310; ComponentLink1Description: Datasheet; ComponentLink1URL: https://www.st.com/content/st_com/en/products/microcontrollers-microprocessors/stm32-32-bit-arm-cortex-mcus/stm32-mainstream-mcus/stm32g0-series/stm32g0x0-value-line/stm32g030k6.html; ComponentLink2Description: Digi-Key; ComponentLink2URL: digikey.com/en/products/detail/stmicroelectronics/STM32G030K6T6/10326688
footprint LQFP_32_7x7mm (32-LQFP / 20190221 / H-D.Garcia)
pins: 1 PB9 (io) "PB8/I2C1_SDA/TIM17_CH1/EVENTOUT", 2 OSC_IN(PC14) (io) "PC14-OSC_IN(PC14)/OSC_IN", 3 OSC_OUT(PC15) (io) "PC15-OSC_OUT(PC15)/OSC_OUT", 4 VDD/VDDA, 5 VSS/VSSA, 6 NRST (io) "Device reset input / internal reset output (active low)", 7 PA0 (io) "PA0/USART2_CTS/ADC1_IN0,RTC_TAMP2,WKUP1", 8 PA1 (io) "PA1/USART2_RTS/EVENTOUT/ADC1_IN1", 9 PA2 (io) "PA2/USART2_TX/ADC1_IN2", 10 PA3 (io) "PA3/USART2_RX/ADC1_IN3", 11 PA4 (io) "PA4/SPI1_NSS/TIM14_CH1/ADC1_IN4", 12 PA5 (io) "PA5/SPI1_SCK/ADC1_IN5", 13 PA6 (io) "PA6/SPI1_MISO/TIM3_CH1/TIM1_BK/TIM16_CH1/ADC1_IN6", 14 PA7 (io) "PA7/SPI1_MOSI/TIM3_CH2/TIM14_CH1/TIM1_CH1N/TIM17_CH1/ADC1_IN7", 15 PB0 (io) "PB0/TIM3_CH3/TIM1_CH2N//ADC1_IN8", 16 PB1 (io) "PB1/TIM3_CH4/TIM14_CH1/TIM1_CH3N/ADC1_IN9", 17 PB2 (io) "PB2/SPI2_MISO/EVENTOUT", 18 PA8 (io) "PA8/TIM1_CH1/EVENTOUT,RCC_MCO", 19 PA9 (io) "PA9/USART1_TX/TIM1_CH2/I2C1_SCL", 20 PC6 (io) "PB8/TIM3_CH1", 21 PA10 (io) "PA10/USART1_RX/TIM1_CH3/TIM17_BK/I2C1_SDA", 22 PA11 (io) "PA11/USART1_CTS/TIM1_CH4", 23 PA12 (io) "PA12/USART1_RTS/TIM1_ETR", 24 PA13(SWDIO) (io) "PA13(SWDIO)/SWDIO", 25 SWCLK,BOOT0(PA14) (io) "PA14(SWCLK)/SWCLK/BOOT0", 26 PA15 (io) "PA15/SPI1_NSS/USART2_RX/EVENTOUT", 27 PB3 (io) "PB3/TIM1_CH2/EVENTOUT", 28 PB4 (io) "PB4/SPI1_MISO/TIM3_CH1/EVENTOUT", 29 PB5 (io) "PB5/SPI1_MOSI/I2C1_SMBA/TIM16_BK/TIM3_CH2", 30 PB6 (io) "PB6/I2C1_SCL/USART1_TX/TIM16_CH1N", 31 PB7 (io) "PB7/I2C1_SDA/USART1_RX/TIM17_CH1N", 32 PB8 (io) "PB8/I2C1_SCL/TIM16_CH1/EVENTOUT"

## IC_MCU_STM32G030K8T6
designator U?, comment STM32G030K8T6
IC MCU 32BIT 64KB FLASH 32LQFP; Manufacturer: STMicroelectronics; Manufacturer Part Number: STM32G030K8T6; Supplier 1: Digi-Key; Supplier Part Number 1: 497-19770-ND; Reel Stock: N/A; Last modified by: J.Jaramillo; Last modified date: 20240310; ComponentLink2Description: Digi-Key; ComponentLink2URL: https://www.digikey.com/en/products/detail/stmicroelectronics/STM32G030K8T6/10326689?s=N4IgTCBcDaIM4BcC2BmMBzADCzBrAHAiALoC%2BQA
footprint LQFP_32_7x7mm (32-LQFP / 20190221 / H-D.Garcia)
pins: 1 PB9 (io) "PB8/I2C1_SDA/TIM17_CH1/EVENTOUT", 2 OSC_IN(PC14) (io) "PC14-OSC_IN(PC14)/OSC_IN", 3 OSC_OUT(PC15) (io) "PC15-OSC_OUT(PC15)/OSC_OUT", 4 VDD/VDDA, 5 VSS/VSSA, 6 NRST (io) "Device reset input / internal reset output (active low)", 7 PA0 (io) "PA0/USART2_CTS/ADC1_IN0,RTC_TAMP2,WKUP1", 8 PA1 (io) "PA1/USART2_RTS/EVENTOUT/ADC1_IN1", 9 PA2 (io) "PA2/USART2_TX/ADC1_IN2", 10 PA3 (io) "PA3/USART2_RX/ADC1_IN3", 11 PA4 (io) "PA4/SPI1_NSS/TIM14_CH1/ADC1_IN4", 12 PA5 (io) "PA5/SPI1_SCK/ADC1_IN5", 13 PA6 (io) "PA6/SPI1_MISO/TIM3_CH1/TIM1_BK/TIM16_CH1/ADC1_IN6", 14 PA7 (io) "PA7/SPI1_MOSI/TIM3_CH2/TIM14_CH1/TIM1_CH1N/TIM17_CH1/ADC1_IN7", 15 PB0 (io) "PB0/TIM3_CH3/TIM1_CH2N//ADC1_IN8", 16 PB1 (io) "PB1/TIM3_CH4/TIM14_CH1/TIM1_CH3N/ADC1_IN9", 17 PB2 (io) "PB2/SPI2_MISO/EVENTOUT", 18 PA8 (io) "PA8/TIM1_CH1/EVENTOUT,RCC_MCO", 19 PA9 (io) "PA9/USART1_TX/TIM1_CH2/I2C1_SCL", 20 PC6 (io) "PB8/TIM3_CH1", 21 PA10 (io) "PA10/USART1_RX/TIM1_CH3/TIM17_BK/I2C1_SDA", 22 PA11 (io) "PA11/USART1_CTS/TIM1_CH4", 23 PA12 (io) "PA12/USART1_RTS/TIM1_ETR", 24 PA13(SWDIO) (io) "PA13(SWDIO)/SWDIO", 25 SWCLK,BOOT0(PA14) (io) "PA14(SWCLK)/SWCLK/BOOT0", 26 PA15 (io) "PA15/SPI1_NSS/USART2_RX/EVENTOUT", 27 PB3 (io) "PB3/TIM1_CH2/EVENTOUT", 28 PB4 (io) "PB4/SPI1_MISO/TIM3_CH1/EVENTOUT", 29 PB5 (io) "PB5/SPI1_MOSI/I2C1_SMBA/TIM16_BK/TIM3_CH2", 30 PB6 (io) "PB6/I2C1_SCL/USART1_TX/TIM16_CH1N", 31 PB7 (io) "PB7/I2C1_SDA/USART1_RX/TIM17_CH1N", 32 PB8 (io) "PB8/I2C1_SCL/TIM16_CH1/EVENTOUT"

## IC_MCU_STM32G070KBT6
designator U?, comment STM32G070KBT6
IC MCU 32BIT 128KB FLASH 32LQFP; Manufacturer: STMicroelectronics; Manufacturer Part Number: STM32G070KBT6; Supplier 1: Digi-Key; Supplier Part Number 1: 497-STM32G070KBT6-ND; Reel Stock: N/A; Last modified by: J.Jaramillo; Last modified date: 20240310; ComponentLink1Description: Digi-Key; ComponentLink1URL: https://www.digikey.com/en/products/detail/stmicroelectronics/STM32G070KBT6/10326752?s=N4IgTCBcDaIMoBUCyBmMBxADAdkwaQCEACEAXQF8g
footprint LQFP_32_7x7mm (32-LQFP / 20190221 / H-D.Garcia)
pins: 1 PB9 (io), 2 PC14-OSC32 IN (io), 3 PC15-OSC32 OUT (io), 4 VDD/VDDA (power), 5 VSS/VSSA (power), 6 ~{RST} (in), 7 PA0 (io), 8 PA1 (io), 9 PA2 (io), 10 PA3 (io), 11 PA4 (io), 12 PA5 (io), 13 PA6 (io), 14 PA7 (io), 15 PB0 (io), 16 PB1 (io), 17 PB2 (io), 18 PA8 (io), 19 PA9 (io), 20 PC6 (io), 21 PA10 (io), 22 PA11[PA9] (io), 23 PA12[PA10] (io), 24 PA13 (io), 25 PA14-BOOT0 (io), 26 PA15 (io), 27 PB3 (io), 28 PB4 (io), 29 PB5 (io), 30 PB6 (io), 31 PB7 (io), 32 PB8 (io)

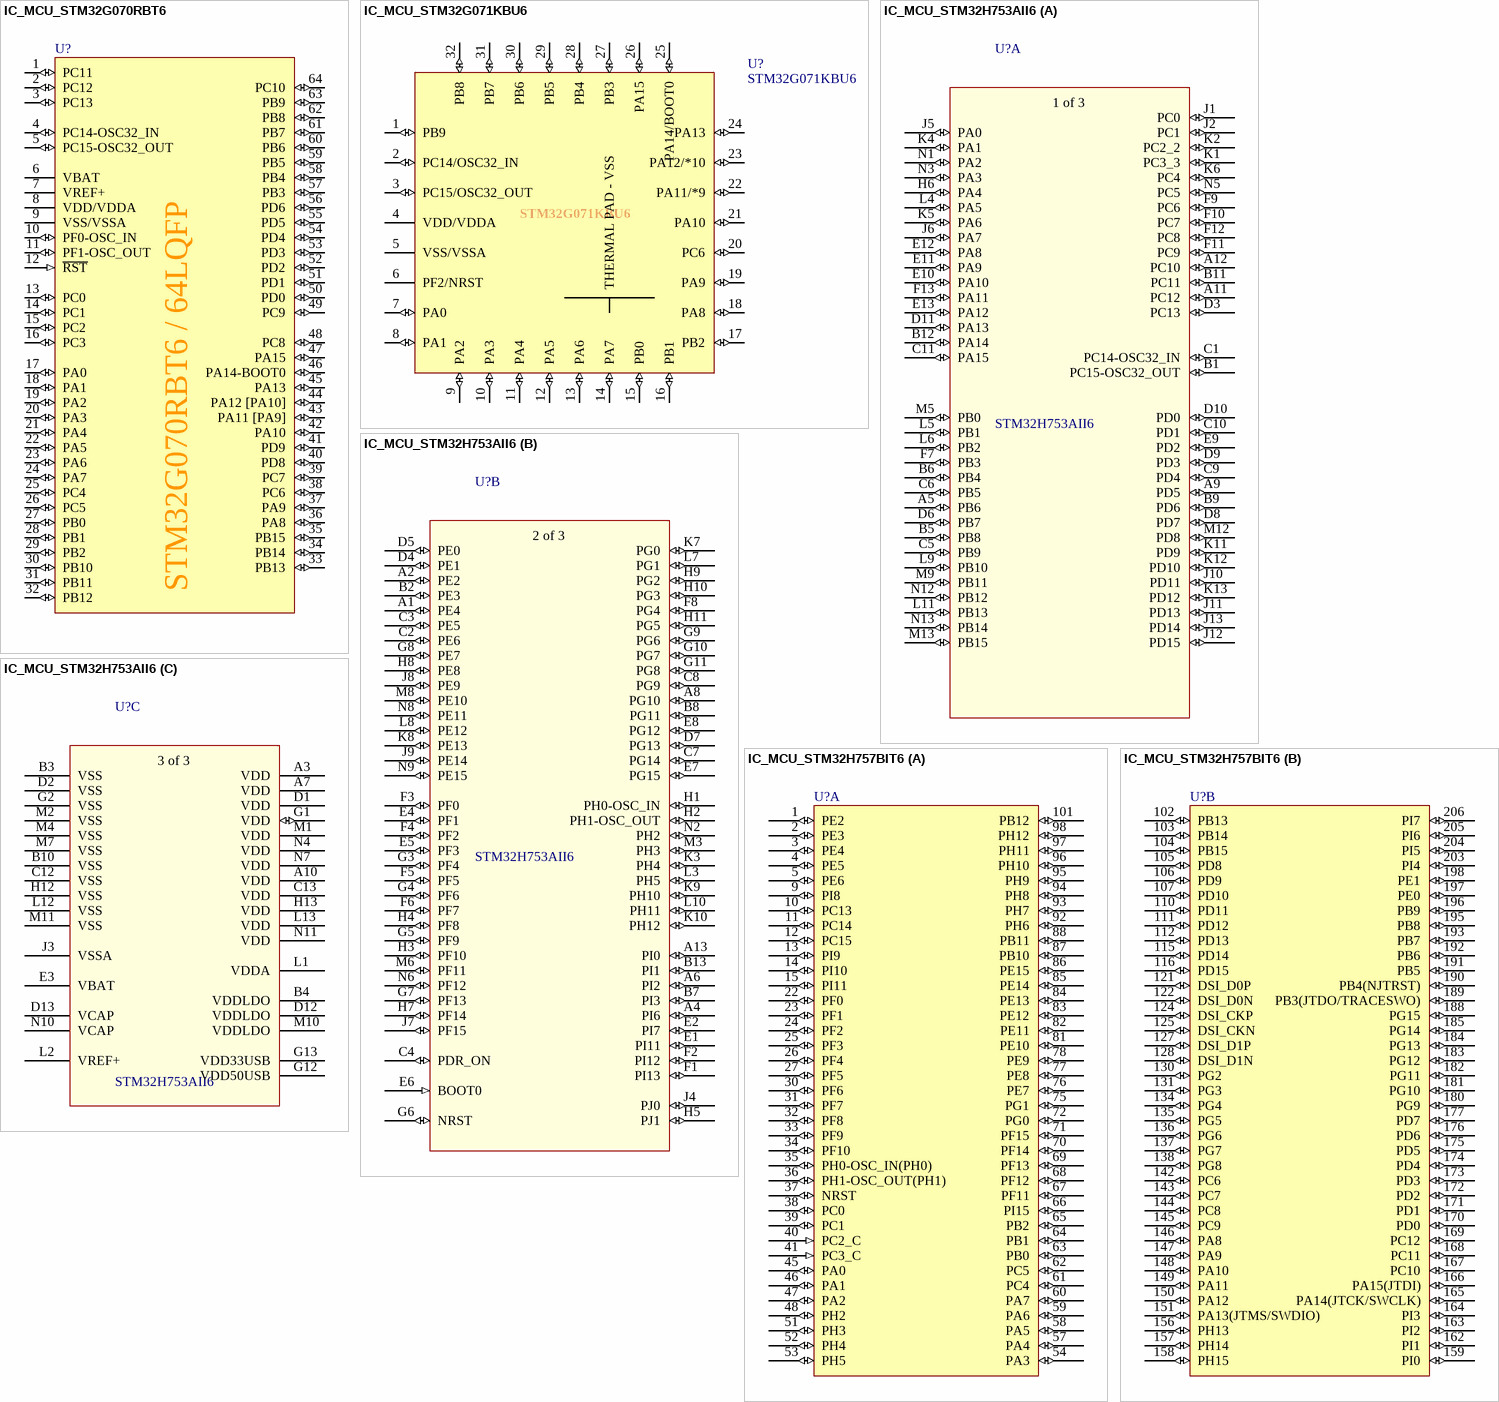
[diagram p7: symbols IC_MCU_STM32G070RBT6 to IC_MCU_STM32H757BIT6]

## IC_MCU_STM32G070RBT6
designator U?, comment STM32G070RBT6  (value not drawn)
IC MCU 32BIT 128KB FLASH 64LQFP; Manufacturer: STMicroelectronics; Manufacturer Part Number: STM32G070RBT6; Supplier 1: Digi-Key; Supplier Part Number 1: 497-STM32G070RBT6-ND; Reel Stock: N/A; Last modified by: J.Jaramillo; Last modified date: 20240310; ComponentLink2Description: Digi-Key; ComponentLink2URL: https://www.digikey.com/en/products/detail/stmicroelectronics/STM32G070RBT6/10326753?s=N4IgTCBcDaIMoBUCyBmMBxADAdkwJQCEEA2EAXQF8g
footprint LQFP_64_10x10mm (64-LQFP / 20211216 / C-E.Rincon)
pins: 1 PC11 (io), 2 PC12 (io), 3 PC13 (io), 4 PC14-OSC32_IN (io), 5 PC15-OSC32_OUT (io), 6 VBAT, 7 VREF+, 8 VDD/VDDA (power), 9 VSS/VSSA (power), 10 PF0-OSC_IN (io), 11 PF1-OSC_OUT (io), 12 ~{RST} (in), 13 PC0 (io), 14 PC1 (io), 15 PC2 (io), 16 PC3 (io), 17 PA0 (io), 18 PA1 (io), 19 PA2 (io), 20 PA3 (io), 21 PA4 (io), 22 PA5 (io), 23 PA6 (io), 24 PA7 (io), 25 PC4 (io), 26 PC5 (io), 27 PB0 (io), 28 PB1 (io), 29 PB2 (io), 30 PB10 (io), 31 PB11 (io), 32 PB12 (io), 33 PB13 (io), 34 PB14 (io), 35 PB15 (io), 36 PA8 (io), 37 PA9 (io), 38 PC6 (io), 39 PC7 (io), 40 PD8 (io), 41 PD9 (io), 42 PA10 (io), 43 PA11 [PA9] (io), 44 PA12 [PA10] (io), 45 PA13 (io), 46 PA14-BOOT0 (io), 47 PA15 (io), 48 PC8 (io), 49 PC9 (io), 50 PD0 (io), 51 PD1 (io), 52 PD2 (io), 53 PD3 (io), 54 PD4 (io), 55 PD5 (io), 56 PD6 (io), 57 PB3 (io), 58 PB4 (io), 59 PB5 (io), 60 PB6 (io), 61 PB7 (io), 62 PB8 (io), 63 PB9 (io), 64 PC10 (io)
text: STM32G070RBT6 / 64LQFP

## IC_MCU_STM32G071KBU6
designator U?, comment STM32G071KBU6
IC MCU 32BIT 128KB FLSH 32UFQFPN; Manufacturer: STMicroelectronics; Supplier 1: Digi-Key; Manufacturer Part Number: STM32G071KBU6; ComponentLink1URL: https://www.st.com/resource/en/datasheet/stm32g071cb.pdf; ComponentLink1Description: Datasheet; Last modified by: J.Jaramillo; Last modified date: 20240310; Supplier Part Number 1: 497-18357-ND; Reel Stock: N/A; ComponentLink2Description: Digi-Key; ComponentLink2URL: https://www.digikey.com/en/products/detail/stmicroelectronics/STM32G071KBU6/9817790
footprint UFQFN_32_5x5mm (32-UFQFN / 20190221 / H-D.Garcia)
pins: 1 PB9 (io), 2 PC14/OSC32_IN (io), 3 PC15/OSC32_OUT (io), 4 VDD/VDDA (power), 5 VSS/VSSA (power), 6 PF2/NRST, 7 PA0 (io), 8 PA1 (io), 9 PA2 (io), 10 PA3 (io), 11 PA4 (io), 12 PA5 (io), 13 PA6 (io), 14 PA7 (io), 15 PB0 (io), 16 PB1 (io), 17 PB2 (io), 18 PA8 (io), 19 PA9 (io), 20 PC6 (io), 21  PA10 (io), 22 PA11/*9 (io), 23 PA12/*10 (io), 24 PA13 (io), 25 PA14/BOOT0 (io), 26 PA15 (io), 27 PB3 (io), 28 PB4 (io), 29 PB5 (io), 30 PB6 (io), 31 PB7 (io), 32 PB8 (io), 33 THERMAL PAD - VSS                     (power)

## IC_MCU_STM32H753AII6
designator U?, comment STM32H753AII6
IC MCU 32BIT 2MB FLASH 169UFBGA; Manufacturer: STMicroelectronics; Manufacturer Part Number: STM32H753AII6; Supplier 1: Digi-Key; Supplier Part Number 1: 497-STM32H753AII6-ND; Reel Stock: N/A; Last modified by: J.Jaramillo; Last modified date: 20240310; ComponentLink1Description: Digi-Key; ComponentLink1URL: https://www.digikey.com/en/products/detail/stmicroelectronics/STM32H753AII6/10326800?s=N4IgTCBcDaIMoBUCyBmMAJA7AVhQQQEkCA2EAXQF8g
footprint UFBGA_169_7X7MM (20220803 / E.Naranjo)
part A pins: A5 PB6 (io), A9 PD5 (io), A11 PC12 (io), A12 PC10 (io), B1 PC15-OSC32_OUT (io), B5 PB8 (io), B6 PB4 (io), B9 PD6 (io), B11 PC11 (io), B12 PA14 (io), C1 PC14-OSC32_IN (io), C5 PB9 (io), C6 PB5 (io), C9 PD4 (io), C10 PD1 (io), C11 PA15 (io), D3 PC13 (io), D6 PB7 (io), D8 PD7 (io), D9 PD3 (io), D10 PD0 (io), D11 PA13 (io), E9 PD2 (io), E10 PA10 (io), E11 PA9 (io), E12 PA8 (io), E13 PA12 (io), F7 PB3 (io), F9 PC6 (io), F10 PC7 (io), F11 PC9 (io), F12 PC8 (io), F13 PA11 (io), H6 PA4 (io), J1 PC0 (io), J2 PC1 (io), J5 PA0 (io), J6 PA7 (io), J10 PD11 (io), J11 PD13 (io), J12 PD15 (io), J13 PD14 (io), K1 PC3_3 (io), K2 PC2_2 (io), K4 PA1 (io), K5 PA6 (io), K6 PC4 (io), K11 PD9 (io), K12 PD10 (io), K13 PD12 (io), L4 PA5 (io), L5 PB1 (io), L6 PB2 (io), L9 PB10 (io), L11 PB13 (io), M5 PB0 (io), M9 PB11 (io), M12 PD8 (io), M13 PB15 (io), N1 PA2 (io), N3 PA3 (io), N5 PC5 (io), N12 PB12 (io), N13 PB14 (io)
part B pins: A1 PE4 (io), A2 PE2 (io), A4 PI6 (io), A6 PI2 (io), A8 PG10 (io), A13 PI0 (io), B2 PE3 (io), B7 PI3 (io), B8 PG11 (io), B13 PI1 (io), C2 PE6 (io), C3 PE5 (io), C4 PDR_ON (io), C7 PG14 (io), C8 PG9 (io), D4 PE1 (io), D5 PE0 (io), D7 PG13 (io), E1 PI11 (io), E2 PI7 (io), E4 PF1 (io), E5 PF3 (io), E6 BOOT0 (in), E7 PG15 (io), E8 PG12 (io), F1 PI13 (io), F2 PI12 (io), F3 PF0 (io), F4 PF2 (io), F5 PF5 (io), F6 PF7 (io), F8 PG4 (io), G3 PF4 (io), G4 PF6 (io), G5 PF9 (io), G6 NRST (io), G7 PF13 (io), G8 PE7 (io), G9 PG6 (io), G10 PG7 (io), G11 PG8 (io), H1 PH0-OSC_IN (io), H2 PH1-OSC_OUT (io), H3 PF10 (io), H4 PF8 (io), H5 PJ1 (io), H7 PF14 (io), H8 PE8 (io), H9 PG2 (io), H10 PG3 (io), H11 PG5 (io), J4 PJ0 (io), J7 PF15 (io), J8 PE9 (io), J9 PE14 (io), K3 PH4 (io), K7 PG0 (io), K8 PE13 (io), K9 PH10 (io), K10 PH12 (io), L3 PH5 (io), L7 PG1 (io), L8 PE12 (io), L10 PH11 (io), M3 PH3 (io), M6 PF11 (io), M8 PE10 (io), N2 PH2 (io), N6 PF12 (io), N8 PE11 (io), N9 PE15 (io)
part C pins: A3 VDD (power), A7 VDD (power), A10 VDD (power), B3 VSS (power), B4 VDDLDO (power), B10 VSS (power), C12 VSS (power), C13 VDD (power), D1 VDD (power), D2 VSS (power), D12 VDDLDO (power), D13 VCAP (power), E3 VBAT (power), G1 VDD (io), G2 VSS (power), G12 VDD50USB (power), G13 VDD33USB (power), H12 VSS (power), H13 VDD (power), J3 VSSA (power), L1 VDDA (power), L2 VREF+ (power), L12 VSS (power), L13 VDD (power), M1 VDD (power), M2 VSS (power), M4 VSS (power), M7 VSS (power), M10 VDDLDO (power), M11 VSS (power), N4 VDD (power), N7 VDD (power), N10 VCAP (power), N11 VDD (power)
part A text: 1 of 3
part B text: 2 of 3
part C text: 3 of 3

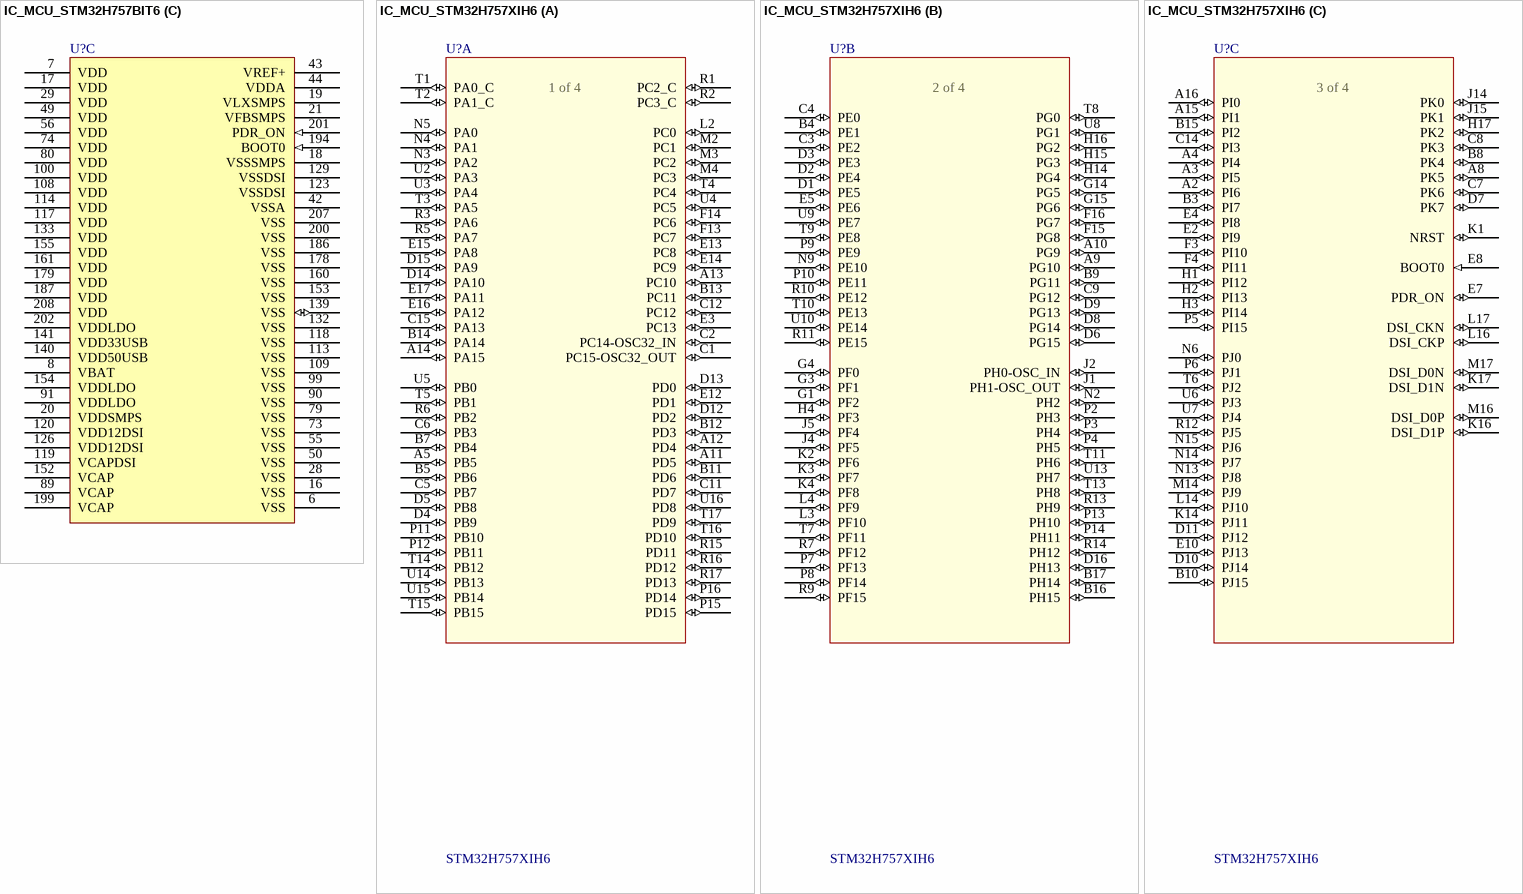
[diagram p8: symbols IC_MCU_STM32H757BIT6 to IC_MCU_STM32H757XIH6]

## IC_MCU_STM32H757BIT6
designator U?
IC MCU 32BIT 2MB FLASH 208LQFP; Manufacturer: STMicroelectronics; Manufacturer Part Number: STM32H757BIT6; Supplier 1: Digi-Key; Supplier Part Number 1: STM32H757BIT6-ND; Reel Stock: N/A; Last modified by: J.Jaramillo; Last modified date: 20240310; ComponentLink1Description: Digi-Key; ComponentLink1URL: https://www.digikey.com/en/products/detail/stmicroelectronics/STM32H757BIT6/10326811?s=N4IgTCBcDaIMoBUCyBmMAJA7AVkwIQEkEA2EAXQF8g
footprint LQFP_208_30x30MM (/20220517/V-A.Patino)
part A pins: 1 PE2 (io), 2 PE3 (io), 3 PE4 (io), 4 PE5 (io), 5 PE6 (io), 9 PI8 (io), 10 PC13 (io), 11 PC14 (io), 12 PC15 (io), 13 PI9 (io), 14 PI10 (io), 15 PI11 (io), 22 PF0 (io), 23 PF1 (io), 24 PF2 (io), 25 PF3 (io), 26 PF4 (io), 27 PF5 (io), 30 PF6 (io), 31 PF7 (io), 32 PF8 (io), 33 PF9 (io), 34 PF10 (io), 35 PH0-OSC_IN(PH0) (io), 36 PH1-OSC_OUT(PH1) (io), 37 NRST (io), 38 PC0 (io), 39 PC1 (io), 40 PC2_C (in), 41 PC3_C (in), 45 PA0 (io), 46 PA1 (io), 47 PA2 (io), 48 PH2 (io), 51 PH3 (io), 52 PH4 (io), 53 PH5 (io), 54 PA3 (io), 57 PA4 (io), 58 PA5 (io), 59 PA6 (io), 60 PA7 (io), 61 PC4 (io), 62 PC5 (io), 63 PB0 (io), 64 PB1 (io), 65 PB2 (io), 66 PI15 (io), 67 PF11 (io), 68 PF12 (io), 69 PF13 (io), 70 PF14 (io), 71 PF15 (io), 72 PG0 (io), 75 PG1 (io), 76 PE7 (io), 77 PE8 (io), 78 PE9 (io), 81 PE10 (io), 82 PE11 (io), 83 PE12 (io), 84 PE13 (io), 85 PE14 (io), 86 PE15 (io), 87 PB10 (io), 88 PB11 (io), 92 PH6 (io), 93 PH7 (io), 94 PH8 (io), 95 PH9 (io), 96 PH10 (io), 97 PH11 (io), 98 PH12 (io), 101 PB12 (io)
part B pins: 102 PB13 (io), 103 PB14 (io), 104 PB15 (io), 105 PD8 (io), 106 PD9 (io), 107 PD10 (io), 110 PD11 (io), 111 PD12 (io), 112 PD13 (io), 115 PD14 (io), 116 PD15 (io), 121 DSI_D0P (io), 122 DSI_D0N (io), 124 DSI_CKP (io), 125 DSI_CKN (io), 127 DSI_D1P (io), 128 DSI_D1N (io), 130 PG2 (io), 131 PG3 (io), 134 PG4 (io), 135 PG5 (io), 136 PG6 (io), 137 PG7 (io), 138 PG8 (io), 142 PC6 (io), 143 PC7 (io), 144 PC8 (io), 145 PC9 (io), 146 PA8 (io), 147 PA9 (io), 148 PA10 (io), 149 PA11 (io), 150 PA12 (io), 151 PA13(JTMS/SWDIO) (io), 156 PH13 (io), 157 PH14 (io), 158 PH15 (io), 159 PI0 (io), 162 PI1 (io), 163 PI2 (io), 164 PI3 (io), 165 PA14(JTCK/SWCLK) (io), 166 PA15(JTDI) (io), 167 PC10 (io), 168 PC11 (io), 169 PC12 (io), 170 PD0 (io), 171 PD1 (io), 172 PD2 (io), 173 PD3 (io), 174 PD4 (io), 175 PD5 (io), 176 PD6 (io), 177 PD7 (io), 180 PG9 (io), 181 PG10 (io), 182 PG11 (io), 183 PG12 (io), 184 PG13 (io), 185 PG14 (io), 188 PG15 (io), 189 PB3(JTDO/TRACESWO) (io), 190 PB4(NJTRST) (io), 191 PB5 (io), 192 PB6 (io), 193 PB7 (io), 195 PB8 (io), 196 PB9 (io), 197 PE0 (io), 198 PE1 (io), 203 PI4 (io), 204 PI5 (io), 205 PI6 (io), 206 PI7 (io)
part C pins: 6 VSS (power), 7 VDD (power), 8 VBAT (power), 16 VSS (power), 17 VDD (power), 18 VSSSMPS (power), 19 VLXSMPS (power), 20 VDDSMPS (power), 21 VFBSMPS (power), 28 VSS (power), 29 VDD (power), 42 VSSA (power), 43 VREF+ (power), 44 VDDA (power), 49 VDD (power), 50 VSS (power), 55 VSS (power), 56 VDD (power), 73 VSS (power), 74 VDD (power), 79 VSS (power), 80 VDD (power), 89 VCAP (power), 90 VSS (power), 91 VDDLDO (power), 99 VSS (power), 100 VDD (power), 108 VDD (power), 109 VSS (power), 113 VSS (power), 114 VDD (power), 117 VDD (power), 118 VSS (power), 119 VCAPDSI (power), 120 VDD12DSI (power), 123 VSSDSI (power), 126 VDD12DSI (power), 129 VSSDSI (power), 132 VSS (power), 133 VDD (power), 139 VSS (io), 140 VDD50USB (power), 141 VDD33USB (power), 152 VCAP (power), 153 VSS (power), 154 VDDLDO (power), 155 VDD (power), 160 VSS (power), 161 VDD (power), 178 VSS (power), 179 VDD (power), 186 VSS (power), 187 VDD (power), 194 BOOT0 (in), 199 VCAP (power), 200 VSS (power), 201 PDR_ON (in), 202 VDDLDO (power), 207 VSS (power), 208 VDD (power)

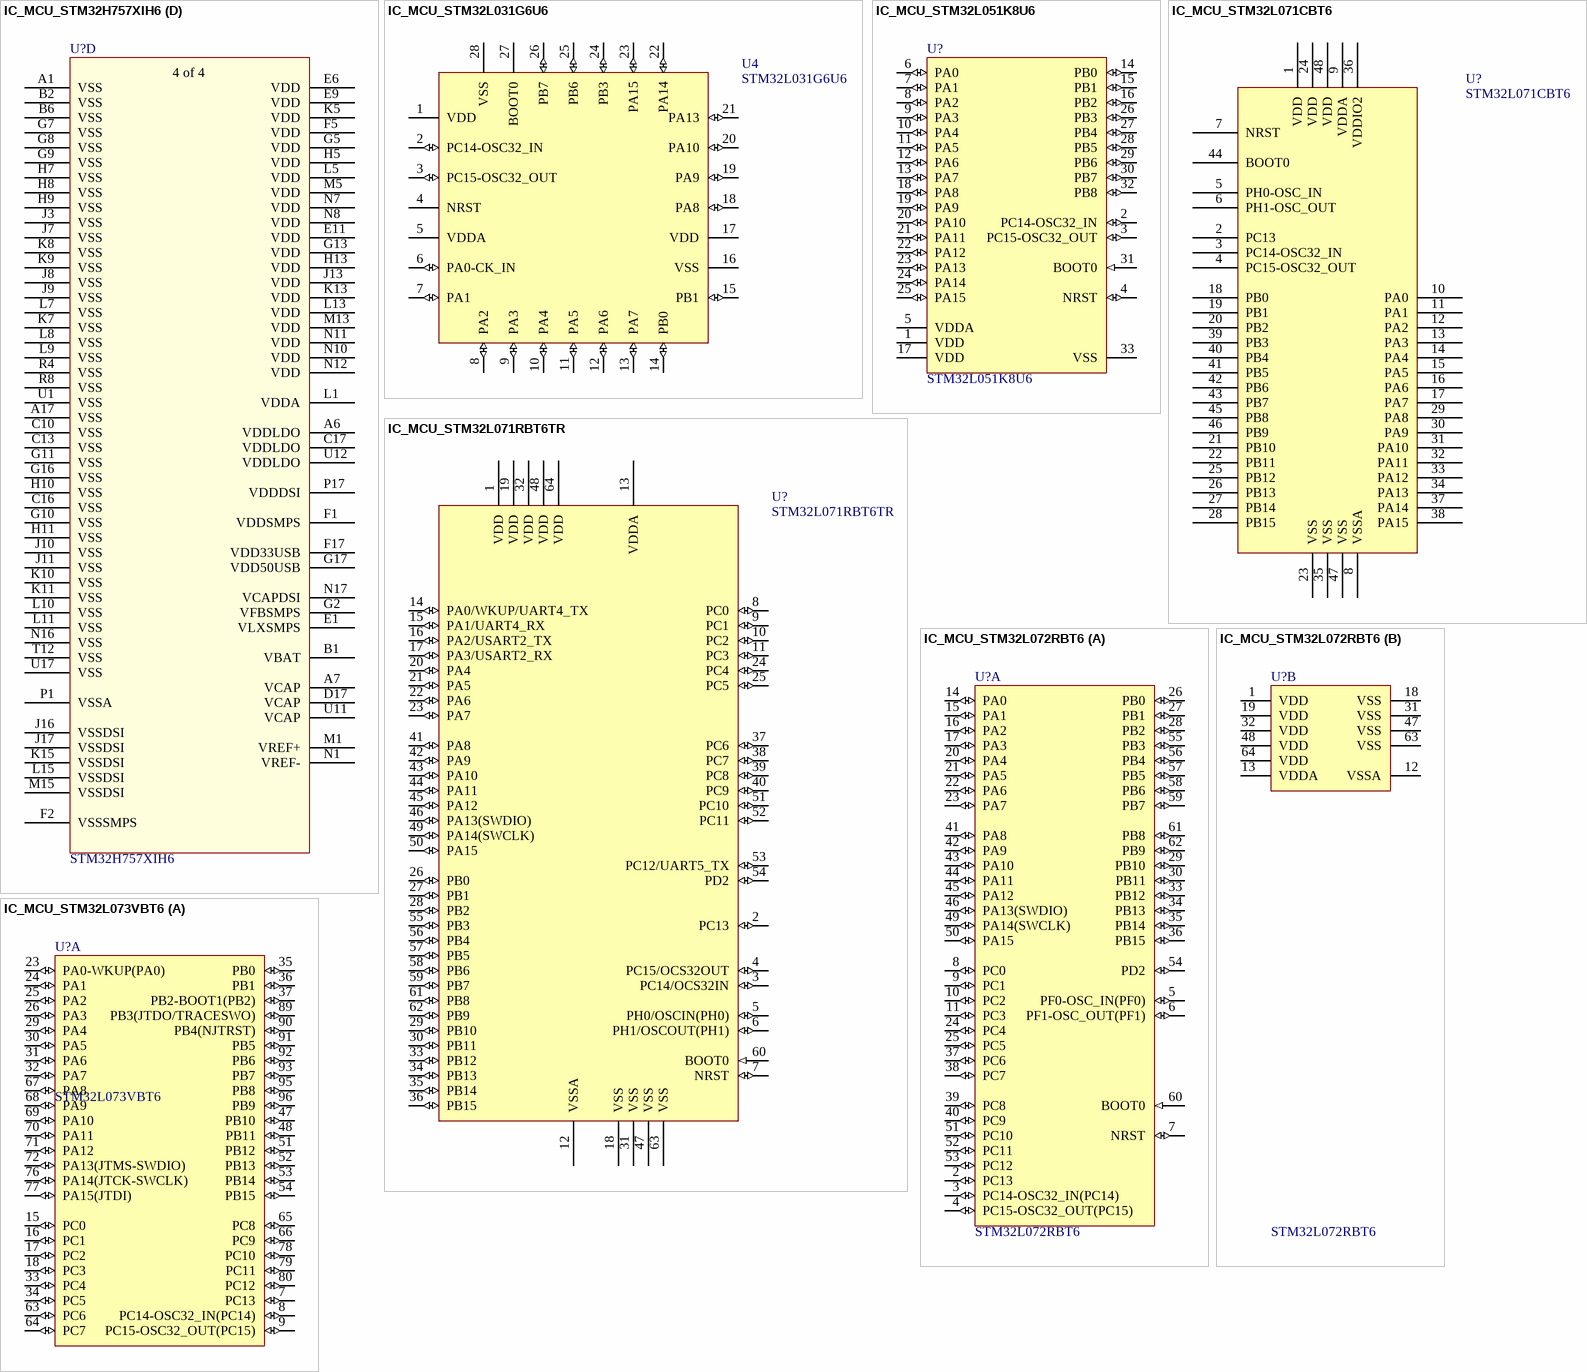
[diagram p9: symbols IC_MCU_STM32H757XIH6 to IC_MCU_STM32L073VBT6]

## IC_MCU_STM32H757XIH6
designator U?, comment STM32H757XIH6
IC MCU 32BIT 2MB FLASH TFBGA; Manufacturer: STMicroelectronics; Manufacturer Part Number: STM32H757XIH6; Supplier 1: Digi-Key; Supplier Part Number 1: STM32H757XIH6-ND; Reel Stock: N/A; Last modified by: J.Jaramillo; Last modified date: 20240310; ComponentLink1Description: Digi-Key; ComponentLink1URL: https://www.digikey.com/en/products/detail/stmicroelectronics/STM32H757XIH6/10326813
footprint TFBGA-265 (20220623 / E.Naranjo)
part A pins: A5 PB5 (io), A11 PD5 (io), A12 PD4 (io), A13 PC10 (io), A14 PA15 (io), B5 PB6 (io), B7 PB4 (io), B11 PD6 (io), B12 PD3 (io), B13 PC11 (io), B14 PA14 (io), C1 PC15-OSC32_OUT (io), C2 PC14-OSC32_IN (io), C5 PB7 (io), C6 PB3 (io), C11 PD7 (io), C12 PC12 (io), C15 PA13 (io), D4 PB9 (io), D5 PB8 (io), D12 PD2 (io), D13 PD0 (io), D14 PA10 (io), D15 PA9 (io), E3 PC13 (io), E12 PD1 (io), E13 PC8 (io), E14 PC9 (io), E15 PA8 (io), E16 PA12 (io), E17 PA11 (io), F13 PC7 (io), F14 PC6 (io), L2 PC0 (io), M2 PC1 (io), M3 PC2 (io), M4 PC3 (io), N3 PA2 (io), N4 PA1 (io), N5 PA0 (io), P11 PB10 (io), P12 PB11 (io), P15 PD15 (io), P16 PD14 (io), R1 PC2_C (io), R2 PC3_C (io), R3 PA6 (io), R5 PA7 (io), R6 PB2 (io), R15 PD11 (io), R16 PD12 (io), R17 PD13 (io), T1 PA0_C (io), T2 PA1_C (io), T3 PA5 (io), T4 PC4 (io), T5 PB1 (io), T14 PB12 (io), T15 PB15 (io), T16 PD10 (io), T17 PD9 (io), U2 PA3 (io), U3 PA4 (io), U4 PC5 (io), U5 PB0 (io), U14 PB13 (io), U15 PB14 (io), U16 PD8 (io)
part B pins: A9 PG10 (io), A10 PG9 (io), B4 PE1 (io), B9 PG11 (io), B16 PH15 (io), B17 PH14 (io), C3 PE2 (io), C4 PE0 (io), C9 PG12 (io), D1 PE5 (io), D2 PE4 (io), D3 PE3 (io), D6 PG15 (io), D8 PG14 (io), D9 PG13 (io), D16 PH13 (io), E5 PE6 (io), F15 PG8 (io), F16 PG7 (io), G1 PF2 (io), G3 PF1 (io), G4 PF0 (io), G14 PG5 (io), G15 PG6 (io), H4 PF3 (io), H14 PG4 (io), H15 PG3 (io), H16 PG2 (io), J1 PH1-OSC_OUT (io), J2 PH0-OSC_IN (io), J4 PF5 (io), J5 PF4 (io), K2 PF6 (io), K3 PF7 (io), K4 PF8 (io), L3 PF10 (io), L4 PF9 (io), N2 PH2 (io), N9 PE10 (io), P2 PH3 (io), P3 PH4 (io), P4 PH5 (io), P7 PF13 (io), P8 PF14 (io), P9 PE9 (io), P10 PE11 (io), P13 PH10 (io), P14 PH11 (io), R7 PF12 (io), R9 PF15 (io), R10 PE12 (io), R11 PE15 (io), R13 PH9 (io), R14 PH12 (io), T7 PF11 (io), T8 PG0 (io), T9 PE8 (io), T10 PE13 (io), T11 PH6 (io), T13 PH8 (io), U8 PG1 (io), U9 PE7 (io), U10 PE14 (io), U13 PH7 (io)
part C pins: A2 PI6 (io), A3 PI5 (io), A4 PI4 (io), A8 PK5 (io), A15 PI1 (io), A16 PI0 (io), B3 PI7 (io), B8 PK4 (io), B10 PJ15 (io), B15 PI2 (io), C7 PK6 (io), C8 PK3 (io), C14 PI3 (io), D7 PK7 (io), D10 PJ14 (io), D11 PJ12 (io), E2 PI9 (io), E4 PI8 (io), E7 PDR_ON (io), E8 BOOT0 (in), E10 PJ13 (io), F3 PI10 (io), F4 PI11 (io), H1 PI12 (io), H2 PI13 (io), H3 PI14 (io), H17 PK2 (io), J14 PK0 (io), J15 PK1 (io), K1 NRST (io), K14 PJ11 (io), K16 DSI_D1P (io), K17 DSI_D1N (io), L14 PJ10 (io), L16 DSI_CKP (io), L17 DSI_CKN (io), M14 PJ9 (io), M16 DSI_D0P (io), M17 DSI_D0N (io), N6 PJ0 (io), N13 PJ8 (io), N14 PJ7 (io), N15 PJ6 (io), P5 PI15 (io), P6 PJ1 (io), R12 PJ5 (io), T6 PJ2 (io), U6 PJ3 (io), U7 PJ4 (io)
part D pins: A1 VSS (power), A6 VDDLDO (power), A7 VCAP (power), A17 VSS (power), B1 VBAT (power), B2 VSS (power), B6 VSS (power), C10 VSS (power), C13 VSS (power), C16 VSS (power), C17 VDDLDO (power), D17 VCAP (power), E1 VLXSMPS (power), E6 VDD (power), E9 VDD (power), E11 VDD (power), F1 VDDSMPS (power), F2 VSSSMPS (power), F5 VDD (power), F17 VDD33USB (power), G2 VFBSMPS (power), G5 VDD (power), G7 VSS (power), G8 VSS (power), G9 VSS (power), G10 VSS (power), G11 VSS (power), G13 VDD (power), G16 VSS (power), G17 VDD50USB (power), H5 VDD (power), H7 VSS (power), H8 VSS (power), H9 VSS (power), H10 VSS (power), H11 VSS (power), H13 VDD (power), J3 VSS (power), J7 VSS (power), J8 VSS (power), J9 VSS (power), J10 VSS (power), J11 VSS (power), J13 VDD (power), J16 VSSDSI (power), J17 VSSDSI (power), K5 VDD (power), K7 VSS (power), K8 VSS (power), K9 VSS (power), K10 VSS (power), K11 VSS (power), K13 VDD (power), K15 VSSDSI (power), L1 VDDA (power), L5 VDD (power), L7 VSS (power), L8 VSS (power), L9 VSS (power), L10 VSS (power), L11 VSS (power), L13 VDD (power), L15 VSSDSI (power), M1 VREF+ (power), M5 VDD (power), M13 VDD (power), M15 VSSDSI (power), N1 VREF- (power), N7 VDD (power), N8 VDD (power), N10 VDD (power), N11 VDD (power), N12 VDD (power), N16 VSS (power), N17 VCAPDSI (power), P1 VSSA (power), P17 VDDDSI (power), R4 VSS (power), R8 VSS (power), T12 VSS (power), U1 VSS (power), U11 VCAP (power), U12 VDDLDO (power), U17 VSS (power)
part A text: 1 of 4
part B text: 2 of 4
part C text: 3 of 4
part D text: 4 of 4